# Altium integrated library Xilinx Virtex.IntLib: 240 symbols (part 16 of 35)
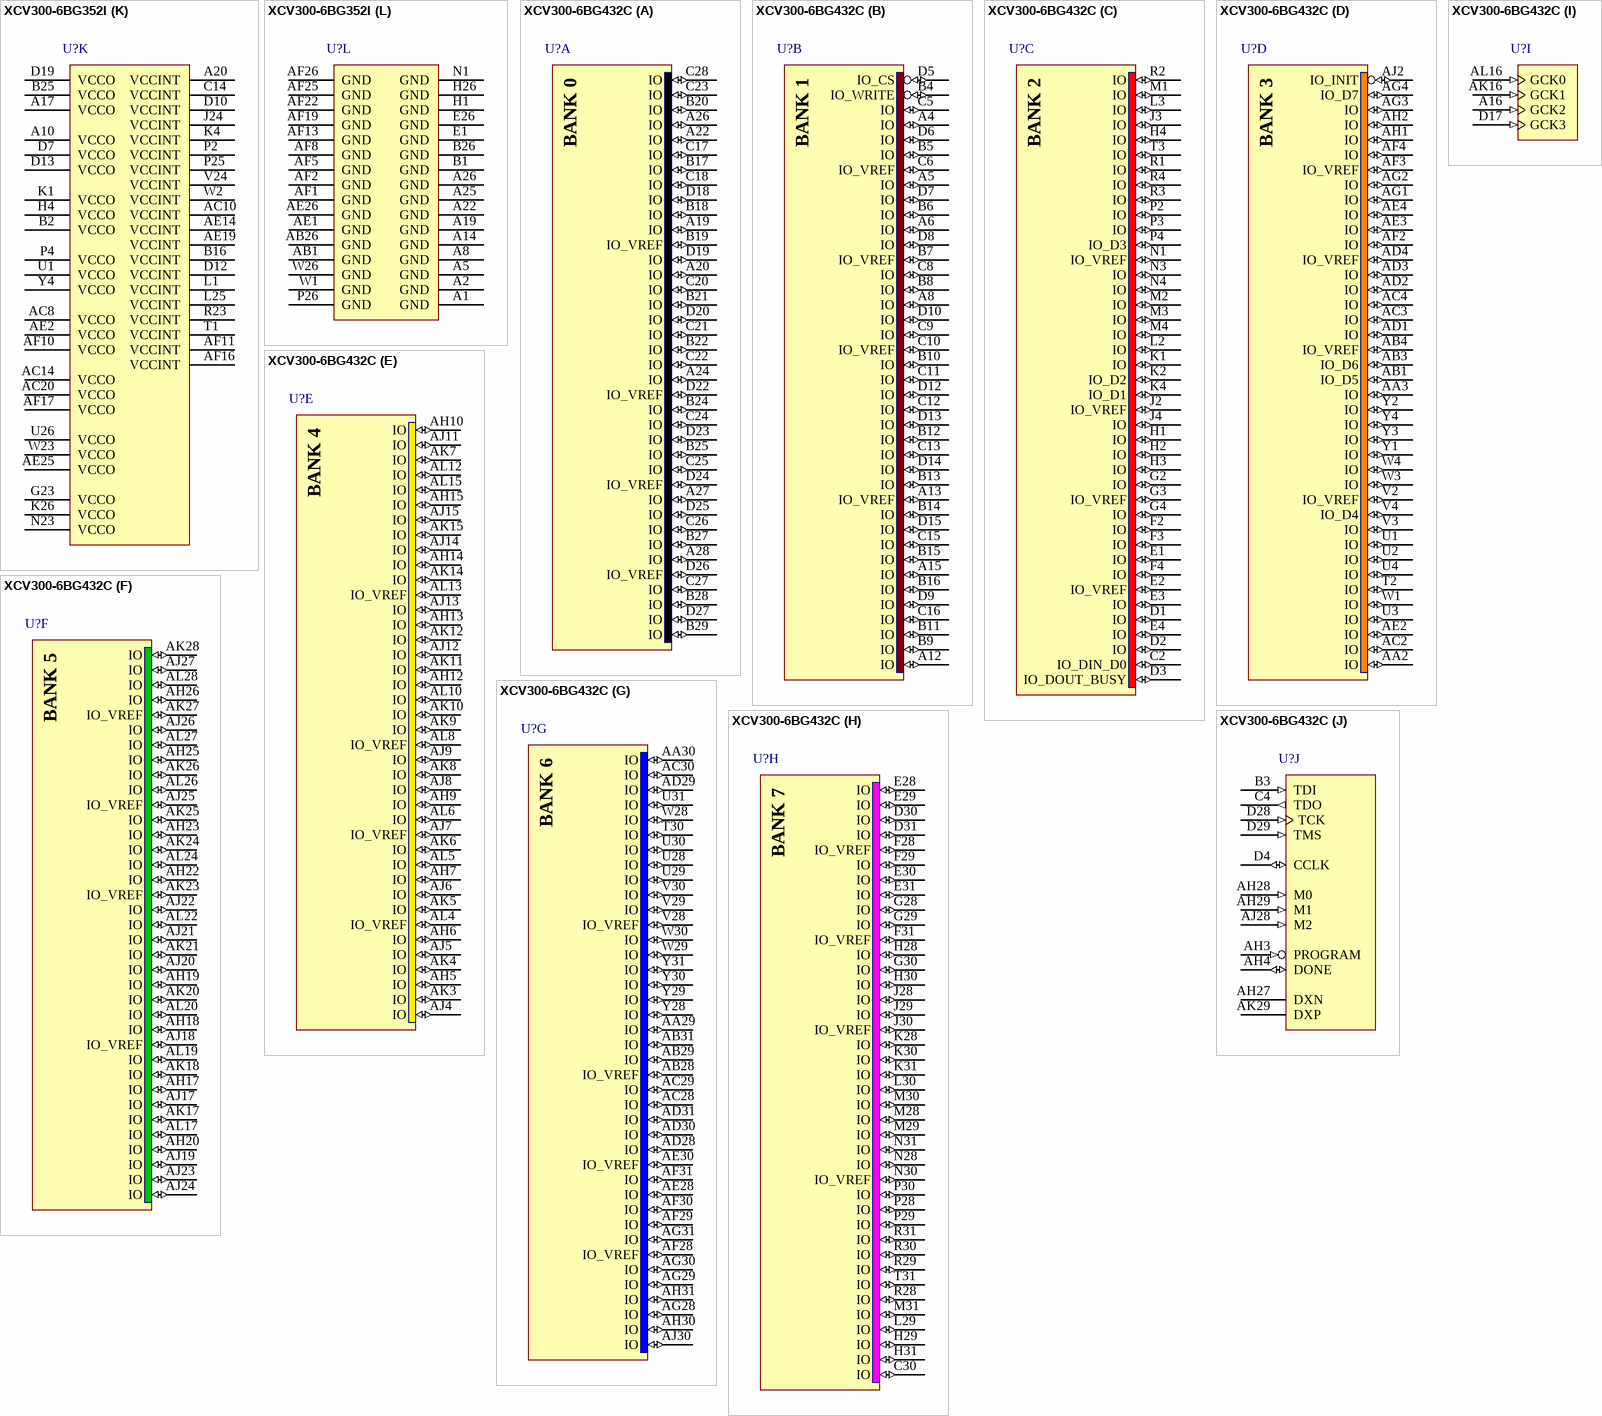
[diagram p227: symbols XCV300-6BG352I to XCV300-6BG432C]

## XCV300-6BG352I
designator U?
Virtex 2.5V FPGA, 352-Ball BGA, Industrial Grade; Note: Solder pads are defined by the copper, i.e. non-soldermask defined (NSMD); Published: 19-Sep-2001; LatestRevisionDate: 13-Apr-2006; LatestRevisionNote: IPC-7351 Footprint Added.; DatasheetVersion: Dec-2002; PackageVersion: ver1.1, Apr-2001; PackageReference: BG352; Publisher: Altium Limited; PackageDescription: 352-Ball Metal Ball Grid Array (BG352); Code_JEDEC: MO-192-BAR-2; ComponentLink1Description: Manufacturer Link; ComponentLink1URL: http://www.xilinx.com/xlnx/xil_prodcat_product.jsp?title=ss_vir; ComponentLink2Description: Datasheet; ComponentLink2URL: http://direct.xilinx.com/bvdocs/publications/ds003.pdf
footprint BG352 (BGA, 352-Leads, Body 35x35mm, Pitch 1.27mm)
3D model XCV300-BG352 (352-Ball Metal Ball Grid Array (BG352))
signal-integrity model XCV300_BG352 (Virtex)
part A pins: A15 IO (io), A16 IO_VREF (io), A18 IO (io), A21 IO (io), A23 IO (io), A24 IO (io), B15 IO (io), B17 IO (io), B18 IO (io), B19 IO (io), B20 IO (io), B21 IO (io), B22 IO (io), B23 IO (io), B24 IO (io), C15 IO (io), C16 IO (io), C17 IO (io), C18 IO (io), C19 IO_VREF (io), C20 IO (io), C21 IO_VREF (io), C22 IO (io), C23 IO (io), D15 IO (io), D16 IO (io), D17 IO (io), D18 IO (io), D20 IO (io), D21 IO_VREF (io), D22 IO (io)
part B pins: A3 IO (io), A4 IO (io), A6 IO (io), A7 IO (io), A9 IO (io), A11 IO (io), A12 IO (io), A13 IO (io), B4 IO (io), B5 IO (io), B6 IO_VREF (io), B7 IO (io), B8 IO (io), B9 IO (io), B10 IO (io), B11 IO (io), B12 IO (io), B13 IO (io), C4 IO_CS (io), C5 IO (io), C6 IO (io), C7 IO (io), C8 IO (io), C9 IO_VREF (io), C10 IO (io), C11 IO (io), C12 IO_VREF (io), C13 IO (io), D5 IO_WRITE (io), D6 IO_VREF (io), D8 IO (io), D9 IO (io), D11 IO (io)
part C pins: C1 IO (io), C2 IO (io), D1 IO (io), D2 IO_VREF (io), D3 IO_DIN_D0 (io), E2 IO_VREF (io), E3 IO (io), E4 IO_DOUT_BUSY (io), F1 IO (io), F2 IO (io), F3 IO (io), F4 IO (io), G1 IO_D1 (io), G2 IO (io), G3 IO (io), G4 IO (io), H2 IO_VREF (io), H3 IO (io), J1 IO (io), J2 IO (io), J3 IO_D2 (io), J4 IO (io), K2 IO (io), K3 IO (io), L2 IO (io), L3 IO (io), L4 IO (io), M1 IO (io), M2 IO (io), M3 IO_D3 (io), M4 IO_VREF (io), N2 IO (io), N3 IO (io), N4 IO (io)
part D pins: AA1 IO (io), AA2 IO (io), AA3 IO (io), AA4 IO (io), AB2 IO (io), AB3 IO (io), AB4 IO (io), AC1 IO (io), AC2 IO_VREF (io), AC3 IO_D7 (io), AD1 IO (io), AD2 IO_INIT (io), P1 IO (io), P3 IO (io), R1 IO (io), R2 IO (io), R3 IO_D4 (io), R4 IO_VREF (io), T2 IO (io), T3 IO (io), T4 IO (io), U2 IO (io), U3 IO (io), U4 IO_D5 (io), V1 IO (io), V2 IO (io), V3 IO_D6 (io), V4 IO_VREF (io), W3 IO (io), W4 IO (io), Y1 IO (io), Y2 IO (io), Y3 IO_VREF (io)
part E pins: AC5 IO (io), AC6 IO (io), AC7 IO (io), AC9 IO (io), AC11 IO (io), AC12 IO_VREF (io), AC13 IO (io), AD4 IO (io), AD5 IO (io), AD6 IO (io), AD7 IO (io), AD8 IO (io), AD9 IO (io), AD10 IO (io), AD11 IO (io), AD12 IO (io), AD13 IO (io), AE3 IO (io), AE4 IO_VREF (io), AE5 IO_VREF (io), AE6 IO (io), AE7 IO (io), AE8 IO_VREF (io), AE9 IO (io), AE10 IO (io), AE11 IO (io), AE12 IO (io), AF3 IO (io), AF4 IO (io), AF6 IO (io), AF7 IO (io), AF9 IO (io), AF12 IO (io)
part F pins: AC15 IO_VREF (io), AC16 IO (io), AC17 IO (io), AC18 IO_VREF (io), AC19 IO (io), AC21 IO (io), AC22 IO (io), AD14 IO (io), AD15 IO (io), AD16 IO (io), AD17 IO (io), AD18 IO (io), AD19 IO (io), AD20 IO_VREF (io), AD21 IO (io), AD22 IO (io), AE15 IO (io), AE16 IO (io), AE17 IO (io), AE18 IO (io), AE20 IO (io), AE21 IO (io), AE22 IO (io), AE23 IO_VREF (io), AF15 IO (io), AF18 IO (io), AF20 IO (io), AF21 IO (io), AF23 IO (io), AF24 IO (io)
part G pins: AA23 IO (io), AA24 IO (io), AA25 IO_VREF (io), AA26 IO (io), AB24 IO (io), AB25 IO (io), AC24 IO (io), AC25 IO (io), AC26 IO (io), AD25 IO (io), AD26 IO_VREF (io), N26 IO (io), P23 IO (io), P24 IO (io), R24 IO_VREF (io), R25 IO (io), R26 IO (io), T23 IO (io), T24 IO (io), T25 IO (io), T26 IO (io), U23 IO (io), U24 IO (io), U25 IO (io), V23 IO (io), V25 IO (io), V26 IO (io), W24 IO (io), W25 IO (io), Y23 IO (io), Y24 IO (io), Y25 IO (io), Y26 IO_VREF (io)
part H pins: C25 IO (io), C26 IO (io), D24 IO (io), D25 IO (io), D26 IO_VREF (io), E23 IO (io), E24 IO_VREF (io), E25 IO (io), F23 IO (io), F24 IO (io), F25 IO (io), F26 IO (io), G24 IO (io), G25 IO (io), G26 IO_VREF (io), H23 IO (io), H24 IO (io), H25 IO (io), J23 IO (io), J25 IO (io), J26 IO (io), K23 IO (io), K24 IO (io), K25 IO (io), L23 IO (io), L24 IO (io), L26 IO_VREF (io), M23 IO (io), M24 IO (io), M25 IO (io), M26 IO (io), N24 IO (io), N25 IO (io)
part I pins: AE13 GCK0 (in), AF14 GCK1 (in), B14 GCK2 (in), D14 GCK3 (in)
part J pins: AB23 M1 (in), AC4 PROGRAM (in), AC23 M2 (in), AD3 DONE (io), AD23 DXN, AD24 M0 (in), AE24 DXP, B3 TDI (in), C3 CCLK (io), C24 TCK (in), D4 TDO (out), D23 TMS (in)
part K pins: A10 VCCO (power), A17 VCCO (power), A20 VCCINT (power), AC8 VCCO (power), AC10 VCCINT (power), AC14 VCCO (power), AC20 VCCO (power), AE2 VCCO (power), AE14 VCCINT (power), AE19 VCCINT (power), AE25 VCCO (power), AF10 VCCO (power), AF11 VCCINT (power), AF16 VCCINT (power), AF17 VCCO (power), B2 VCCO (power), B16 VCCINT (power), B25 VCCO (power), C14 VCCINT (power), D7 VCCO (power), D10 VCCINT (power), D12 VCCINT (power), D13 VCCO (power), D19 VCCO (power), G23 VCCO (power), H4 VCCO (power), J24 VCCINT (power), K1 VCCO (power), K4 VCCINT (power), K26 VCCO (power), L1 VCCINT (power), L25 VCCINT (power), N23 VCCO (power), P2 VCCINT (power), P4 VCCO (power), P25 VCCINT (power), R23 VCCINT (power), T1 VCCINT (power), U1 VCCO (power), U26 VCCO (power), V24 VCCINT (power), W2 VCCINT (power), W23 VCCO (power), Y4 VCCO (power)
part L pins: A1 GND (power), A2 GND (power), A5 GND (power), A8 GND (power), A14 GND (power), A19 GND (power), A22 GND (power), A25 GND (power), A26 GND (power), AB1 GND (power), AB26 GND (power), AE1 GND (power), AE26 GND (power), AF1 GND (power), AF2 GND (power), AF5 GND (power), AF8 GND (power), AF13 GND (power), AF19 GND (power), AF22 GND (power), AF25 GND (power), AF26 GND (power), B1 GND (power), B26 GND (power), E1 GND (power), E26 GND (power), H1 GND (power), H26 GND (power), N1 GND (power), P26 GND (power), W1 GND (power), W26 GND (power)
part A text: BANK 0
part B text: BANK 1
part C text: BANK 2
part D text: BANK 3
part E text: BANK 4
part F text: BANK 5
part G text: BANK 6
part H text: BANK 7

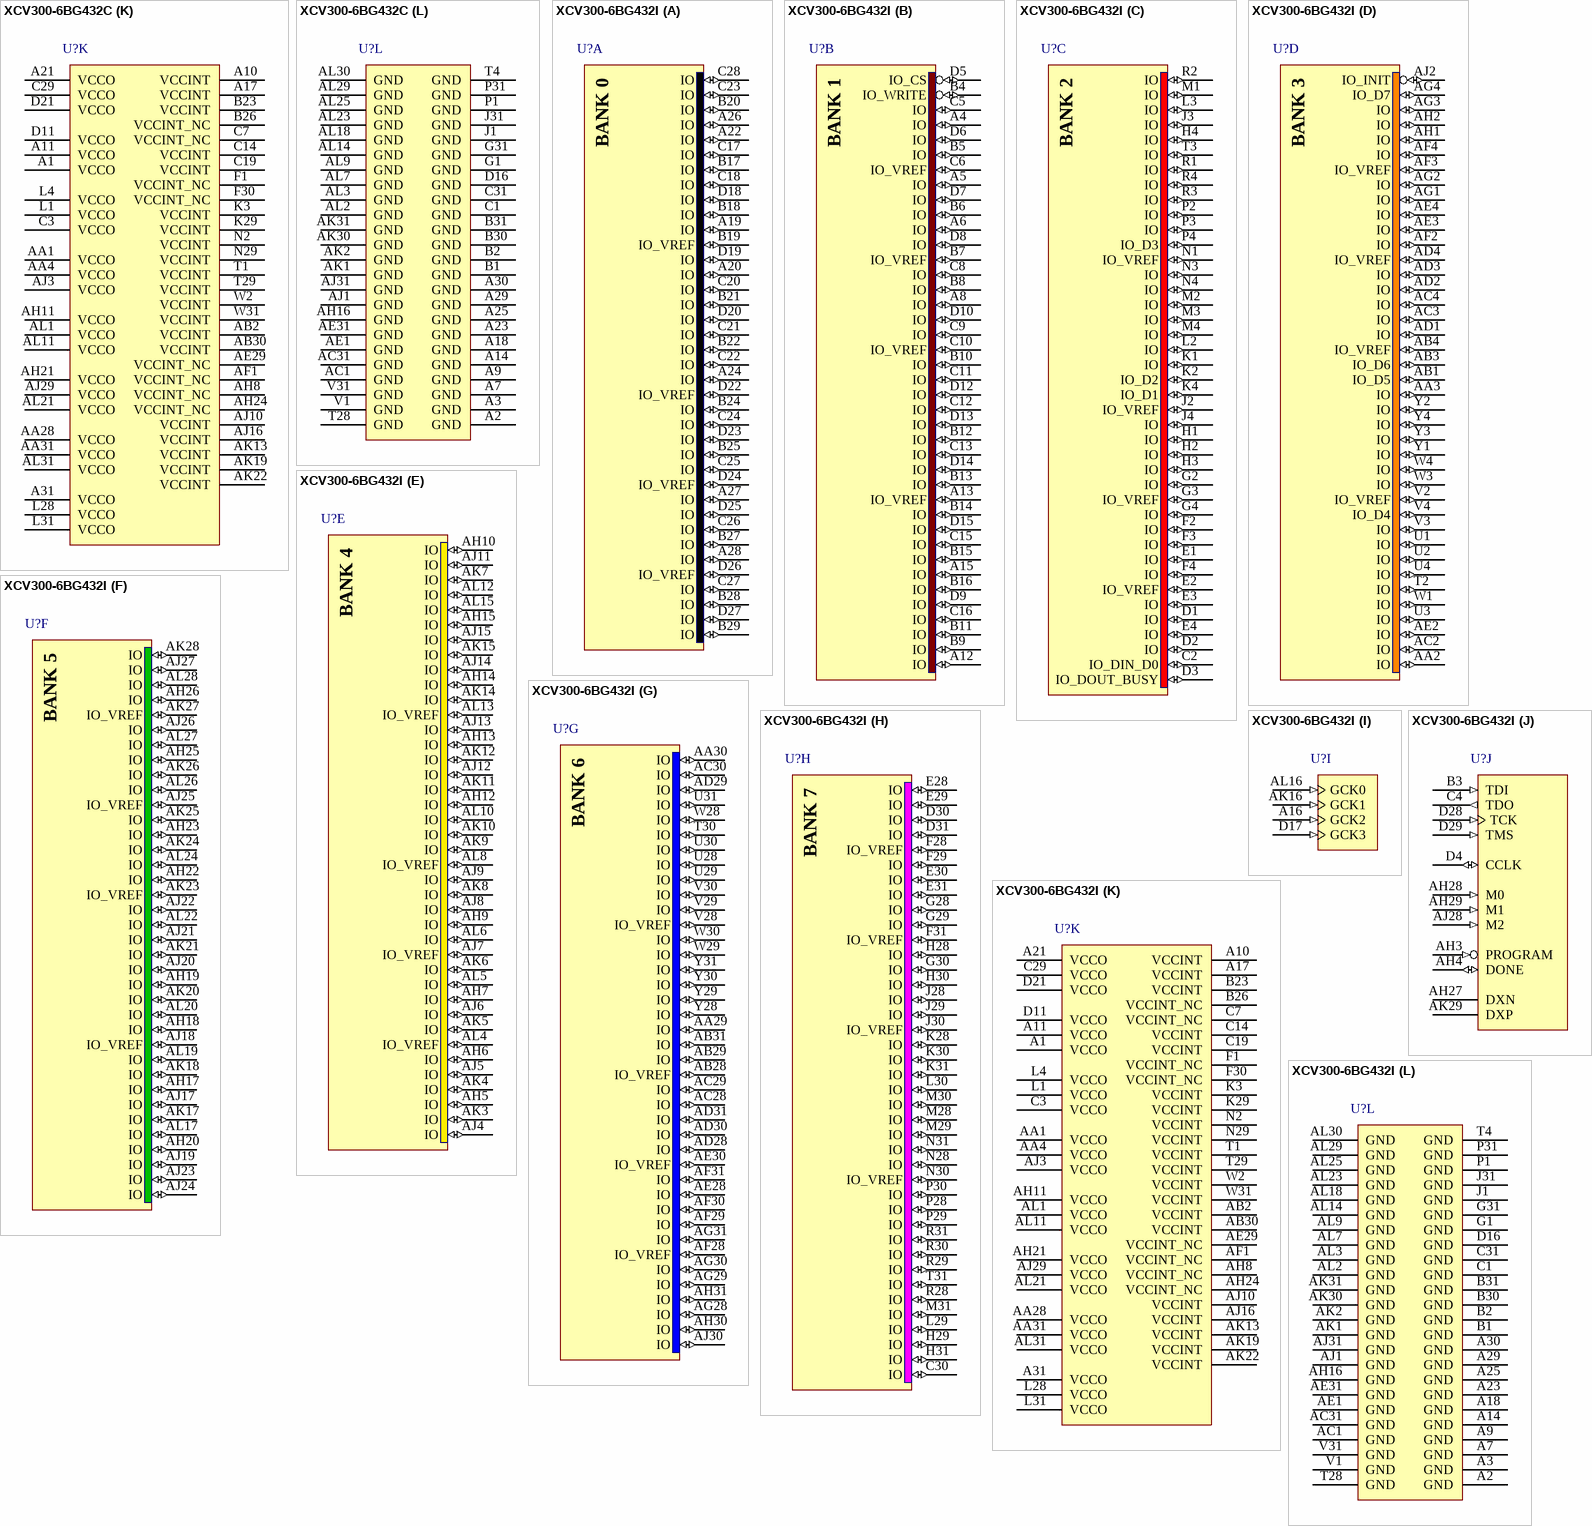
[diagram p89: symbols XCV300-6BG432C to XCV300-6BG432I]

## XCV300-6BG432C
designator U?
Virtex 2.5V FPGA, 432-Ball BGA, Commercial Grade; Note: Solder pads are defined by the copper, i.e. non-soldermask defined (NSMD); Published: 19-Sep-2001; LatestRevisionDate: 13-Apr-2006; LatestRevisionNote: IPC-7351 Footprint Added.; DatasheetVersion: Dec-2002; PackageVersion: ver1.1, Apr-2001; PackageReference: BG432; Publisher: Altium Limited; PackageDescription: 432-Ball Metal Ball Grid Array (BG432); Code_JEDEC: MO-192-BAU-1 (Depopulated); ComponentLink1Description: Manufacturer Link; ComponentLink1URL: http://www.xilinx.com/xlnx/xil_prodcat_product.jsp?title=ss_vir; ComponentLink2Description: Datasheet; ComponentLink2URL: http://direct.xilinx.com/bvdocs/publications/ds003.pdf
footprint BG432 (BGA, 432-Leads, Body 40x40mm, Pitch 1.27mm)
3D model XCV300-BG432 (432-Ball Metal Ball Grid Array (BG432))
signal-integrity model XCV300_BG432 (Virtex)
part A pins: A19 IO (io), A20 IO (io), A22 IO (io), A24 IO (io), A26 IO (io), A27 IO (io), A28 IO (io), B17 IO (io), B18 IO (io), B19 IO_VREF (io), B20 IO (io), B21 IO (io), B22 IO (io), B24 IO (io), B25 IO (io), B27 IO (io), B28 IO (io), B29 IO (io), C17 IO (io), C18 IO (io), C20 IO (io), C21 IO (io), C22 IO (io), C23 IO (io), C24 IO (io), C25 IO (io), C26 IO (io), C27 IO (io), C28 IO (io), D18 IO (io), D19 IO (io), D20 IO (io), D22 IO_VREF (io), D23 IO (io), D24 IO_VREF (io), D25 IO (io), D26 IO_VREF (io), D27 IO (io)
part B pins: A4 IO (io), A5 IO (io), A6 IO (io), A8 IO (io), A12 IO (io), A13 IO_VREF (io), A15 IO (io), B4 IO_WRITE (io), B5 IO (io), B6 IO (io), B7 IO_VREF (io), B8 IO (io), B9 IO (io), B10 IO (io), B11 IO (io), B12 IO (io), B13 IO (io), B14 IO (io), B15 IO (io), B16 IO (io), C5 IO (io), C6 IO_VREF (io), C8 IO (io), C9 IO (io), C10 IO_VREF (io), C11 IO (io), C12 IO (io), C13 IO (io), C15 IO (io), C16 IO (io), D5 IO_CS (io), D6 IO (io), D7 IO (io), D8 IO (io), D9 IO (io), D10 IO (io), D12 IO (io), D13 IO (io), D14 IO (io), D15 IO (io)
part C pins: C2 IO_DIN_D0 (io), D1 IO (io), D2 IO (io), D3 IO_DOUT_BUSY (io), E1 IO (io), E2 IO_VREF (io), E3 IO (io), E4 IO (io), F2 IO (io), F3 IO (io), F4 IO (io), G2 IO (io), G3 IO_VREF (io), G4 IO (io), H1 IO (io), H2 IO (io), H3 IO (io), H4 IO (io), J2 IO_VREF (io), J3 IO (io), J4 IO (io), K1 IO (io), K2 IO_D2 (io), K4 IO_D1 (io), L2 IO (io), L3 IO (io), M1 IO (io), M2 IO (io), M3 IO (io), M4 IO (io), N1 IO_VREF (io), N3 IO (io), N4 IO (io), P2 IO (io), P3 IO (io), P4 IO_D3 (io), R1 IO (io), R2 IO (io), R3 IO (io), R4 IO (io), T3 IO (io)
part D pins: AA2 IO (io), AA3 IO (io), AB1 IO_D5 (io), AB3 IO_D6 (io), AB4 IO_VREF (io), AC2 IO (io), AC3 IO (io), AC4 IO (io), AD1 IO (io), AD2 IO (io), AD3 IO (io), AD4 IO_VREF (io), AE2 IO (io), AE3 IO (io), AE4 IO (io), AF2 IO (io), AF3 IO_VREF (io), AF4 IO (io), AG1 IO (io), AG2 IO (io), AG3 IO (io), AG4 IO_D7 (io), AH1 IO (io), AH2 IO (io), AJ2 IO_INIT (io), T2 IO (io), U1 IO (io), U2 IO (io), U3 IO (io), U4 IO (io), V2 IO_VREF (io), V3 IO (io), V4 IO_D4 (io), W1 IO (io), W3 IO (io), W4 IO (io), Y1 IO (io), Y2 IO (io), Y3 IO (io), Y4 IO (io)
part E pins: AH5 IO (io), AH6 IO (io), AH7 IO (io), AH9 IO (io), AH10 IO (io), AH12 IO (io), AH13 IO (io), AH14 IO (io), AH15 IO (io), AJ4 IO (io), AJ5 IO (io), AJ6 IO (io), AJ7 IO_VREF (io), AJ8 IO (io), AJ9 IO (io), AJ11 IO (io), AJ12 IO (io), AJ13 IO (io), AJ14 IO (io), AJ15 IO (io), AK3 IO (io), AK4 IO (io), AK5 IO (io), AK6 IO (io), AK7 IO (io), AK8 IO (io), AK9 IO (io), AK10 IO (io), AK11 IO (io), AK12 IO (io), AK14 IO (io), AK15 IO (io), AL4 IO_VREF (io), AL5 IO (io), AL6 IO (io), AL8 IO_VREF (io), AL10 IO (io), AL12 IO (io), AL13 IO_VREF (io), AL15 IO (io)
part F pins: AH17 IO (io), AH18 IO (io), AH19 IO (io), AH20 IO (io), AH22 IO (io), AH23 IO (io), AH25 IO (io), AH26 IO (io), AJ17 IO (io), AJ18 IO_VREF (io), AJ19 IO (io), AJ20 IO (io), AJ21 IO (io), AJ22 IO (io), AJ23 IO (io), AJ24 IO (io), AJ25 IO_VREF (io), AJ26 IO (io), AJ27 IO (io), AK17 IO (io), AK18 IO (io), AK20 IO (io), AK21 IO (io), AK23 IO_VREF (io), AK24 IO (io), AK25 IO (io), AK26 IO (io), AK27 IO_VREF (io), AK28 IO (io), AL17 IO (io), AL19 IO (io), AL20 IO (io), AL22 IO (io), AL24 IO (io), AL26 IO (io), AL27 IO (io), AL28 IO (io)
part G pins: AA29 IO (io), AA30 IO (io), AB28 IO_VREF (io), AB29 IO (io), AB31 IO (io), AC28 IO (io), AC29 IO (io), AC30 IO (io), AD28 IO (io), AD29 IO (io), AD30 IO (io), AD31 IO (io), AE28 IO (io), AE30 IO_VREF (io), AF28 IO_VREF (io), AF29 IO (io), AF30 IO (io), AF31 IO (io), AG28 IO (io), AG29 IO (io), AG30 IO (io), AG31 IO (io), AH30 IO (io), AH31 IO (io), AJ30 IO (io), T30 IO (io), U28 IO (io), U29 IO (io), U30 IO (io), U31 IO (io), V28 IO_VREF (io), V29 IO (io), V30 IO (io), W28 IO (io), W29 IO (io), W30 IO (io), Y28 IO (io), Y29 IO (io), Y30 IO (io), Y31 IO (io)
part H pins: C30 IO (io), D30 IO (io), D31 IO (io), E28 IO (io), E29 IO (io), E30 IO (io), E31 IO (io), F28 IO_VREF (io), F29 IO (io), F31 IO_VREF (io), G28 IO (io), G29 IO (io), G30 IO (io), H28 IO (io), H29 IO (io), H30 IO (io), H31 IO (io), J28 IO (io), J29 IO (io), J30 IO_VREF (io), K28 IO (io), K30 IO (io), K31 IO (io), L29 IO (io), L30 IO (io), M28 IO (io), M29 IO (io), M30 IO (io), M31 IO (io), N28 IO (io), N30 IO_VREF (io), N31 IO (io), P28 IO (io), P29 IO (io), P30 IO (io), R28 IO (io), R29 IO (io), R30 IO (io), R31 IO (io), T31 IO (io)
part I pins: A16 GCK2 (in), AK16 GCK1 (in), AL16 GCK0 (in), D17 GCK3 (in)
part J pins: AH3 PROGRAM (in), AH4 DONE (io), AH27 DXN, AH28 M0 (in), AH29 M1 (in), AJ28 M2 (in), AK29 DXP, B3 TDI (in), C4 TDO (out), D4 CCLK (io), D28 TCK (in), D29 TMS (in)
part K pins: A1 VCCO (power), A10 VCCINT (power), A11 VCCO (power), A17 VCCINT (power), A21 VCCO (power), A31 VCCO (power), AA1 VCCO (power), AA4 VCCO (power), AA28 VCCO (power), AA31 VCCO (power), AB2 VCCINT (power), AB30 VCCINT (power), AE29 VCCINT_NC (power), AF1 VCCINT_NC (power), AH8 VCCINT_NC (power), AH11 VCCO (power), AH21 VCCO (power), AH24 VCCINT_NC (power), AJ3 VCCO (power), AJ10 VCCINT (power), AJ16 VCCINT (power), AJ29 VCCO (power), AK13 VCCINT (power), AK19 VCCINT (power), AK22 VCCINT (power), AL1 VCCO (power), AL11 VCCO (power), AL21 VCCO (power), AL31 VCCO (power), B23 VCCINT (power), B26 VCCINT_NC (power), C3 VCCO (power), C7 VCCINT_NC (power), C14 VCCINT (power), C19 VCCINT (power), C29 VCCO (power), D11 VCCO (power), D21 VCCO (power), F1 VCCINT_NC (power), F30 VCCINT_NC (power), K3 VCCINT (power), K29 VCCINT (power), L1 VCCO (power), L4 VCCO (power), L28 VCCO (power), L31 VCCO (power), N2 VCCINT (power), N29 VCCINT (power), T1 VCCINT (power), T29 VCCINT (power), W2 VCCINT (power), W31 VCCINT (power)
part L pins: A2 GND (power), A3 GND (power), A7 GND (power), A9 GND (power), A14 GND (power), A18 GND (power), A23 GND (power), A25 GND (power), A29 GND (power), A30 GND (power), AC1 GND (power), AC31 GND (power), AE1 GND (power), AE31 GND (power), AH16 GND (power), AJ1 GND (power), AJ31 GND (power), AK1 GND (power), AK2 GND (power), AK30 GND (power), AK31 GND (power), AL2 GND (power), AL3 GND (power), AL7 GND (power), AL9 GND (power), AL14 GND (power), AL18 GND (power), AL23 GND (power), AL25 GND (power), AL29 GND (power), AL30 GND (power), B1 GND (power), B2 GND (power), B30 GND (power), B31 GND (power), C1 GND (power), C31 GND (power), D16 GND (power), G1 GND (power), G31 GND (power), J1 GND (power), J31 GND (power), P1 GND (power), P31 GND (power), T4 GND (power), T28 GND (power), V1 GND (power), V31 GND (power)
part A text: BANK 0
part B text: BANK 1
part C text: BANK 2
part D text: BANK 3
part E text: BANK 4
part F text: BANK 5
part G text: BANK 6
part H text: BANK 7

## XCV300-6BG432I
designator U?
Virtex 2.5V FPGA, 432-Ball BGA, Industrial Grade; Note: Solder pads are defined by the copper, i.e. non-soldermask defined (NSMD); Published: 19-Sep-2001; LatestRevisionDate: 13-Apr-2006; LatestRevisionNote: IPC-7351 Footprint Added.; DatasheetVersion: Dec-2002; PackageVersion: ver1.1, Apr-2001; PackageReference: BG432; Publisher: Altium Limited; PackageDescription: 432-Ball Metal Ball Grid Array (BG432); Code_JEDEC: MO-192-BAU-1 (Depopulated); ComponentLink1Description: Manufacturer Link; ComponentLink1URL: http://www.xilinx.com/xlnx/xil_prodcat_product.jsp?title=ss_vir; ComponentLink2Description: Datasheet; ComponentLink2URL: http://direct.xilinx.com/bvdocs/publications/ds003.pdf
footprint BG432 (BGA, 432-Leads, Body 40x40mm, Pitch 1.27mm)
3D model XCV300-BG432 (432-Ball Metal Ball Grid Array (BG432))
signal-integrity model XCV300_BG432 (Virtex)
part A pins: A19 IO (io), A20 IO (io), A22 IO (io), A24 IO (io), A26 IO (io), A27 IO (io), A28 IO (io), B17 IO (io), B18 IO (io), B19 IO_VREF (io), B20 IO (io), B21 IO (io), B22 IO (io), B24 IO (io), B25 IO (io), B27 IO (io), B28 IO (io), B29 IO (io), C17 IO (io), C18 IO (io), C20 IO (io), C21 IO (io), C22 IO (io), C23 IO (io), C24 IO (io), C25 IO (io), C26 IO (io), C27 IO (io), C28 IO (io), D18 IO (io), D19 IO (io), D20 IO (io), D22 IO_VREF (io), D23 IO (io), D24 IO_VREF (io), D25 IO (io), D26 IO_VREF (io), D27 IO (io)
part B pins: A4 IO (io), A5 IO (io), A6 IO (io), A8 IO (io), A12 IO (io), A13 IO_VREF (io), A15 IO (io), B4 IO_WRITE (io), B5 IO (io), B6 IO (io), B7 IO_VREF (io), B8 IO (io), B9 IO (io), B10 IO (io), B11 IO (io), B12 IO (io), B13 IO (io), B14 IO (io), B15 IO (io), B16 IO (io), C5 IO (io), C6 IO_VREF (io), C8 IO (io), C9 IO (io), C10 IO_VREF (io), C11 IO (io), C12 IO (io), C13 IO (io), C15 IO (io), C16 IO (io), D5 IO_CS (io), D6 IO (io), D7 IO (io), D8 IO (io), D9 IO (io), D10 IO (io), D12 IO (io), D13 IO (io), D14 IO (io), D15 IO (io)
part C pins: C2 IO_DIN_D0 (io), D1 IO (io), D2 IO (io), D3 IO_DOUT_BUSY (io), E1 IO (io), E2 IO_VREF (io), E3 IO (io), E4 IO (io), F2 IO (io), F3 IO (io), F4 IO (io), G2 IO (io), G3 IO_VREF (io), G4 IO (io), H1 IO (io), H2 IO (io), H3 IO (io), H4 IO (io), J2 IO_VREF (io), J3 IO (io), J4 IO (io), K1 IO (io), K2 IO_D2 (io), K4 IO_D1 (io), L2 IO (io), L3 IO (io), M1 IO (io), M2 IO (io), M3 IO (io), M4 IO (io), N1 IO_VREF (io), N3 IO (io), N4 IO (io), P2 IO (io), P3 IO (io), P4 IO_D3 (io), R1 IO (io), R2 IO (io), R3 IO (io), R4 IO (io), T3 IO (io)
part D pins: AA2 IO (io), AA3 IO (io), AB1 IO_D5 (io), AB3 IO_D6 (io), AB4 IO_VREF (io), AC2 IO (io), AC3 IO (io), AC4 IO (io), AD1 IO (io), AD2 IO (io), AD3 IO (io), AD4 IO_VREF (io), AE2 IO (io), AE3 IO (io), AE4 IO (io), AF2 IO (io), AF3 IO_VREF (io), AF4 IO (io), AG1 IO (io), AG2 IO (io), AG3 IO (io), AG4 IO_D7 (io), AH1 IO (io), AH2 IO (io), AJ2 IO_INIT (io), T2 IO (io), U1 IO (io), U2 IO (io), U3 IO (io), U4 IO (io), V2 IO_VREF (io), V3 IO (io), V4 IO_D4 (io), W1 IO (io), W3 IO (io), W4 IO (io), Y1 IO (io), Y2 IO (io), Y3 IO (io), Y4 IO (io)
part E pins: AH5 IO (io), AH6 IO (io), AH7 IO (io), AH9 IO (io), AH10 IO (io), AH12 IO (io), AH13 IO (io), AH14 IO (io), AH15 IO (io), AJ4 IO (io), AJ5 IO (io), AJ6 IO (io), AJ7 IO_VREF (io), AJ8 IO (io), AJ9 IO (io), AJ11 IO (io), AJ12 IO (io), AJ13 IO (io), AJ14 IO (io), AJ15 IO (io), AK3 IO (io), AK4 IO (io), AK5 IO (io), AK6 IO (io), AK7 IO (io), AK8 IO (io), AK9 IO (io), AK10 IO (io), AK11 IO (io), AK12 IO (io), AK14 IO (io), AK15 IO (io), AL4 IO_VREF (io), AL5 IO (io), AL6 IO (io), AL8 IO_VREF (io), AL10 IO (io), AL12 IO (io), AL13 IO_VREF (io), AL15 IO (io)
part F pins: AH17 IO (io), AH18 IO (io), AH19 IO (io), AH20 IO (io), AH22 IO (io), AH23 IO (io), AH25 IO (io), AH26 IO (io), AJ17 IO (io), AJ18 IO_VREF (io), AJ19 IO (io), AJ20 IO (io), AJ21 IO (io), AJ22 IO (io), AJ23 IO (io), AJ24 IO (io), AJ25 IO_VREF (io), AJ26 IO (io), AJ27 IO (io), AK17 IO (io), AK18 IO (io), AK20 IO (io), AK21 IO (io), AK23 IO_VREF (io), AK24 IO (io), AK25 IO (io), AK26 IO (io), AK27 IO_VREF (io), AK28 IO (io), AL17 IO (io), AL19 IO (io), AL20 IO (io), AL22 IO (io), AL24 IO (io), AL26 IO (io), AL27 IO (io), AL28 IO (io)
part G pins: AA29 IO (io), AA30 IO (io), AB28 IO_VREF (io), AB29 IO (io), AB31 IO (io), AC28 IO (io), AC29 IO (io), AC30 IO (io), AD28 IO (io), AD29 IO (io), AD30 IO (io), AD31 IO (io), AE28 IO (io), AE30 IO_VREF (io), AF28 IO_VREF (io), AF29 IO (io), AF30 IO (io), AF31 IO (io), AG28 IO (io), AG29 IO (io), AG30 IO (io), AG31 IO (io), AH30 IO (io), AH31 IO (io), AJ30 IO (io), T30 IO (io), U28 IO (io), U29 IO (io), U30 IO (io), U31 IO (io), V28 IO_VREF (io), V29 IO (io), V30 IO (io), W28 IO (io), W29 IO (io), W30 IO (io), Y28 IO (io), Y29 IO (io), Y30 IO (io), Y31 IO (io)
part H pins: C30 IO (io), D30 IO (io), D31 IO (io), E28 IO (io), E29 IO (io), E30 IO (io), E31 IO (io), F28 IO_VREF (io), F29 IO (io), F31 IO_VREF (io), G28 IO (io), G29 IO (io), G30 IO (io), H28 IO (io), H29 IO (io), H30 IO (io), H31 IO (io), J28 IO (io), J29 IO (io), J30 IO_VREF (io), K28 IO (io), K30 IO (io), K31 IO (io), L29 IO (io), L30 IO (io), M28 IO (io), M29 IO (io), M30 IO (io), M31 IO (io), N28 IO (io), N30 IO_VREF (io), N31 IO (io), P28 IO (io), P29 IO (io), P30 IO (io), R28 IO (io), R29 IO (io), R30 IO (io), R31 IO (io), T31 IO (io)
part I pins: A16 GCK2 (in), AK16 GCK1 (in), AL16 GCK0 (in), D17 GCK3 (in)
part J pins: AH3 PROGRAM (in), AH4 DONE (io), AH27 DXN, AH28 M0 (in), AH29 M1 (in), AJ28 M2 (in), AK29 DXP, B3 TDI (in), C4 TDO (out), D4 CCLK (io), D28 TCK (in), D29 TMS (in)
part K pins: A1 VCCO (power), A10 VCCINT (power), A11 VCCO (power), A17 VCCINT (power), A21 VCCO (power), A31 VCCO (power), AA1 VCCO (power), AA4 VCCO (power), AA28 VCCO (power), AA31 VCCO (power), AB2 VCCINT (power), AB30 VCCINT (power), AE29 VCCINT_NC (power), AF1 VCCINT_NC (power), AH8 VCCINT_NC (power), AH11 VCCO (power), AH21 VCCO (power), AH24 VCCINT_NC (power), AJ3 VCCO (power), AJ10 VCCINT (power), AJ16 VCCINT (power), AJ29 VCCO (power), AK13 VCCINT (power), AK19 VCCINT (power), AK22 VCCINT (power), AL1 VCCO (power), AL11 VCCO (power), AL21 VCCO (power), AL31 VCCO (power), B23 VCCINT (power), B26 VCCINT_NC (power), C3 VCCO (power), C7 VCCINT_NC (power), C14 VCCINT (power), C19 VCCINT (power), C29 VCCO (power), D11 VCCO (power), D21 VCCO (power), F1 VCCINT_NC (power), F30 VCCINT_NC (power), K3 VCCINT (power), K29 VCCINT (power), L1 VCCO (power), L4 VCCO (power), L28 VCCO (power), L31 VCCO (power), N2 VCCINT (power), N29 VCCINT (power), T1 VCCINT (power), T29 VCCINT (power), W2 VCCINT (power), W31 VCCINT (power)
part L pins: A2 GND (power), A3 GND (power), A7 GND (power), A9 GND (power), A14 GND (power), A18 GND (power), A23 GND (power), A25 GND (power), A29 GND (power), A30 GND (power), AC1 GND (power), AC31 GND (power), AE1 GND (power), AE31 GND (power), AH16 GND (power), AJ1 GND (power), AJ31 GND (power), AK1 GND (power), AK2 GND (power), AK30 GND (power), AK31 GND (power), AL2 GND (power), AL3 GND (power), AL7 GND (power), AL9 GND (power), AL14 GND (power), AL18 GND (power), AL23 GND (power), AL25 GND (power), AL29 GND (power), AL30 GND (power), B1 GND (power), B2 GND (power), B30 GND (power), B31 GND (power), C1 GND (power), C31 GND (power), D16 GND (power), G1 GND (power), G31 GND (power), J1 GND (power), J31 GND (power), P1 GND (power), P31 GND (power), T4 GND (power), T28 GND (power), V1 GND (power), V31 GND (power)
part A text: BANK 0
part B text: BANK 1
part C text: BANK 2
part D text: BANK 3
part E text: BANK 4
part F text: BANK 5
part G text: BANK 6
part H text: BANK 7

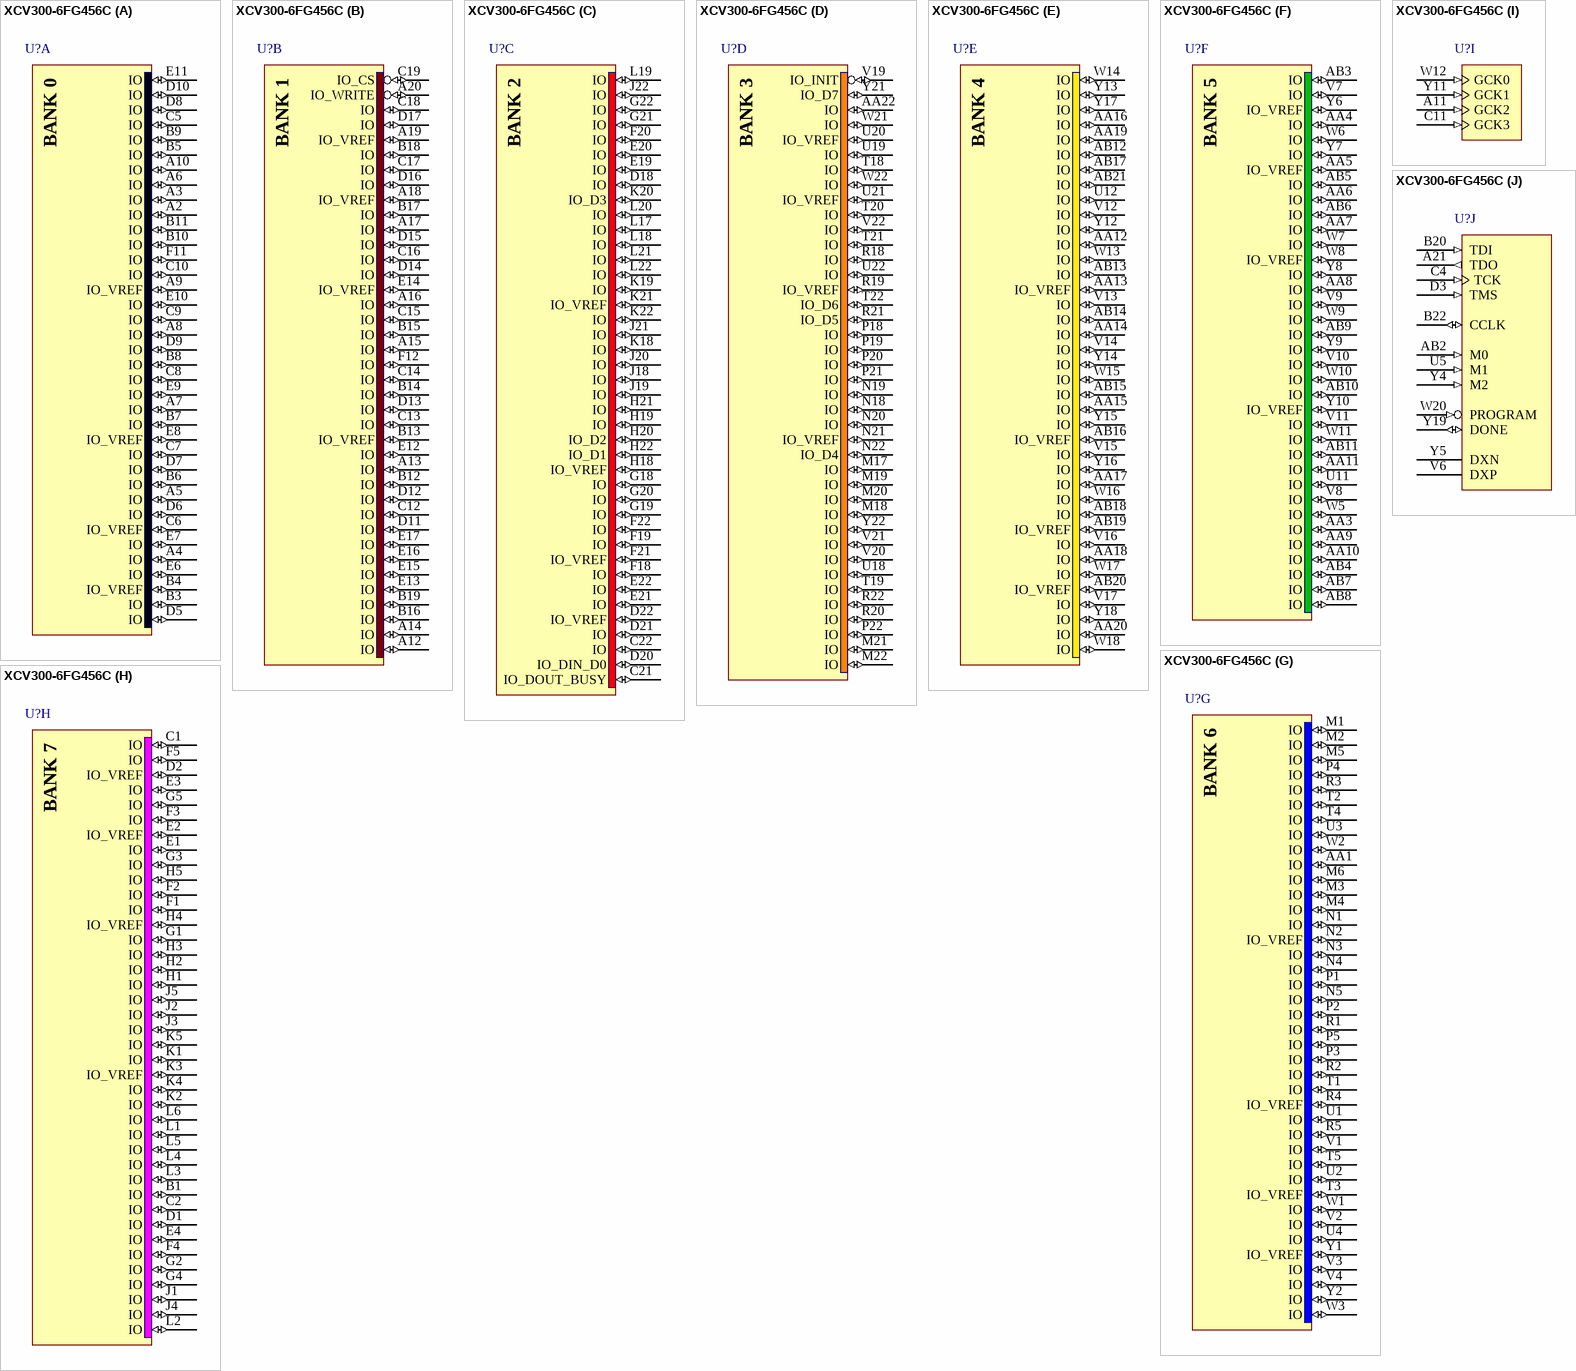
[diagram p90: symbol XCV300-6FG456C]

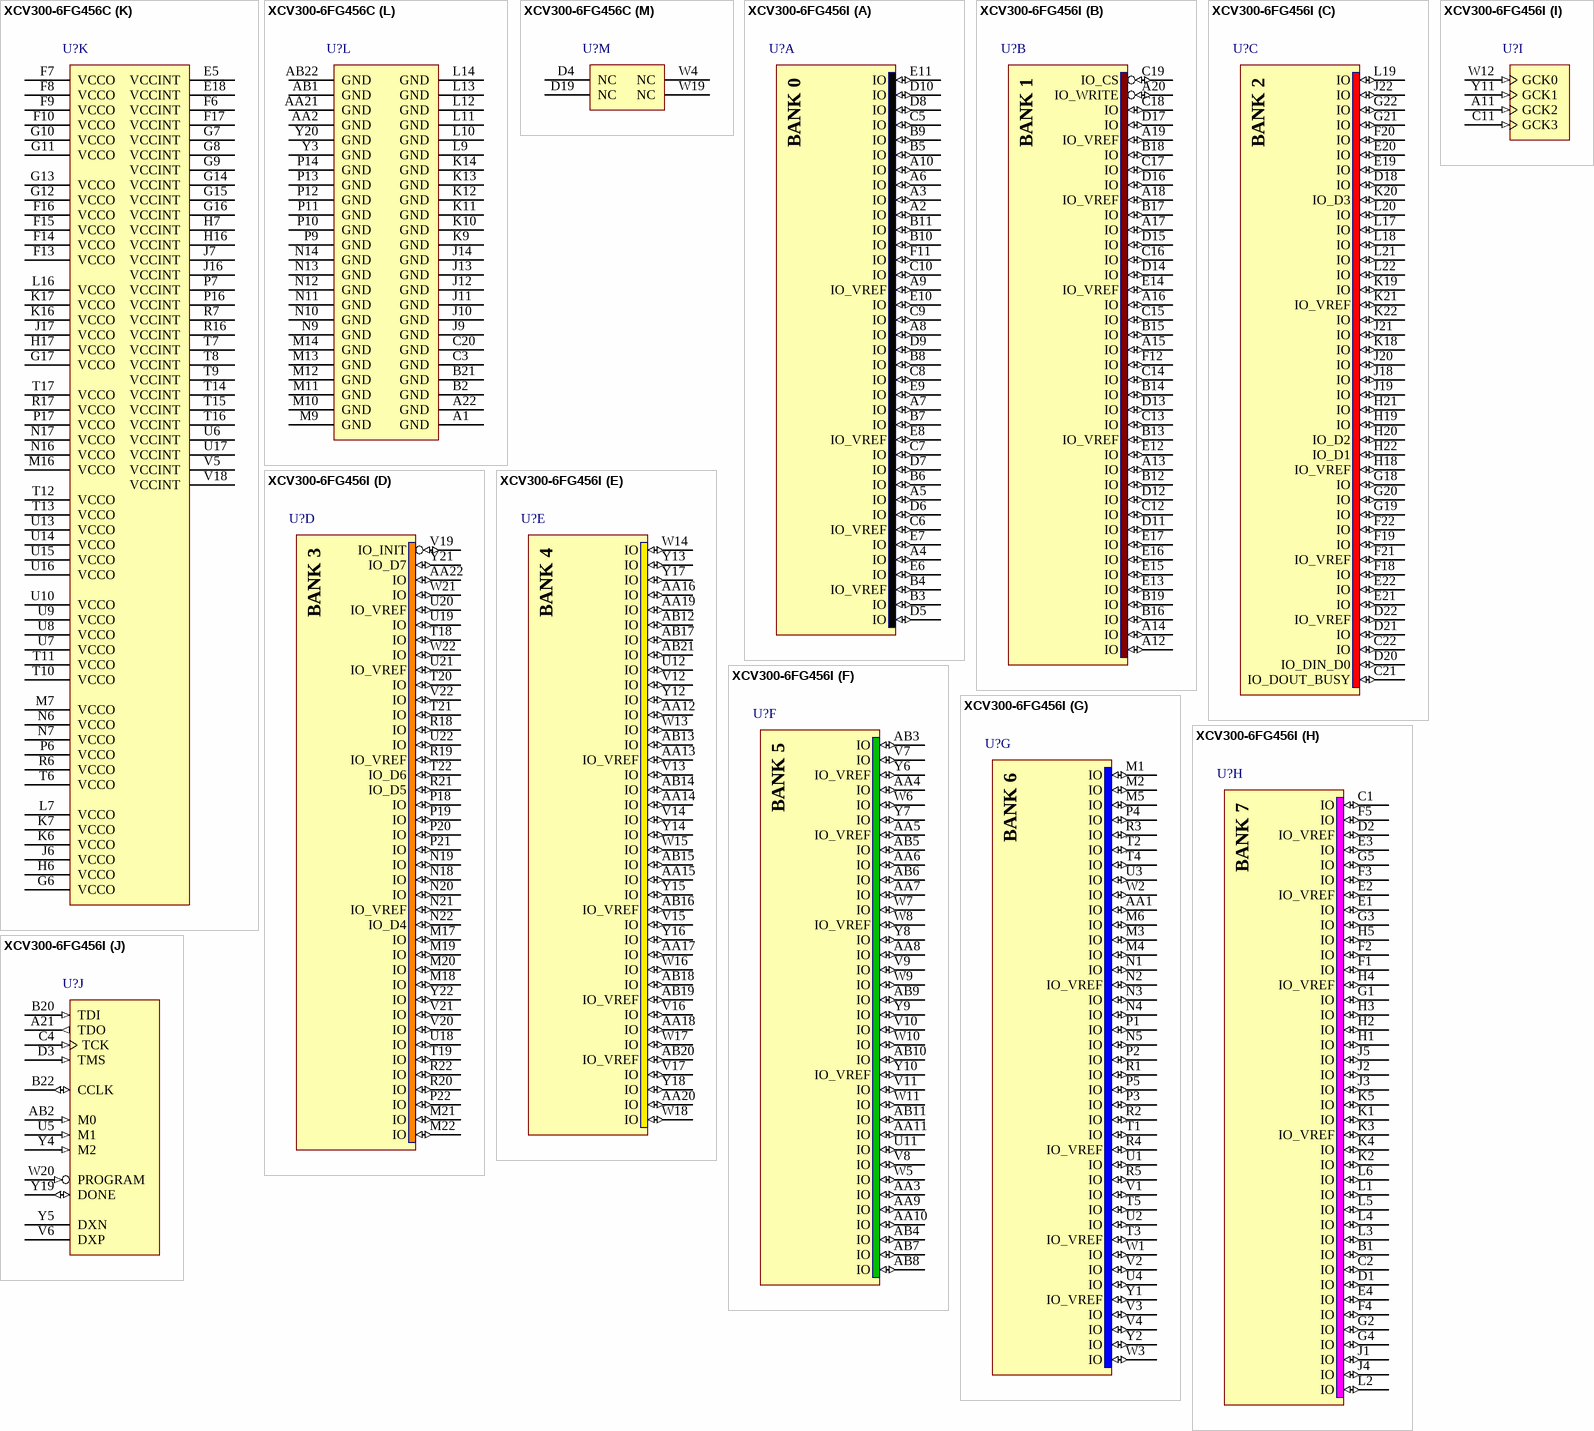
[diagram p91: symbols XCV300-6FG456C to XCV300-6FG456I]

## XCV300-6FG456C
designator U?
Virtex 2.5V FPGA, 456-Ball FBGA, Commercial Grade; Note: Solder pads are defined by the copper, i.e. non-soldermask defined (NSMD); Published: 19-Sep-2001; LatestRevisionDate: 13-Apr-2006; LatestRevisionNote: IPC-7351 Footprint Added.; DatasheetVersion: Dec-2002; PackageVersion: ver1.2.1, Mar-2005; PackageReference: FG456; Publisher: Altium Limited; PackageDescription: 456-Ball Fine Pitch Ball Grid Array (FG456); Code_JEDEC: MO-151-AAJ-1 (Depopulated); ComponentLink1Description: Manufacturer Link; ComponentLink1URL: http://www.xilinx.com/xlnx/xil_prodcat_product.jsp?title=ss_vir; ComponentLink2Description: Datasheet; ComponentLink2URL: http://direct.xilinx.com/bvdocs/publications/ds003.pdf
footprint FG456 (BGA, 456-Leads, Body 23x23mm, Pitch 1mm)
3D model XCV300-FG456 (456-Ball Fine Pitch Ball Grid Array (FG456))
signal-integrity model XCV300_FG456 (Virtex)
part A pins: A2 IO (io), A3 IO (io), A4 IO (io), A5 IO (io), A6 IO (io), A7 IO (io), A8 IO (io), A9 IO_VREF (io), A10 IO (io), B3 IO (io), B4 IO_VREF (io), B5 IO (io), B6 IO (io), B7 IO (io), B8 IO (io), B9 IO (io), B10 IO (io), B11 IO (io), C5 IO (io), C6 IO_VREF (io), C7 IO (io), C8 IO (io), C9 IO (io), C10 IO (io), D5 IO (io), D6 IO (io), D7 IO (io), D8 IO (io), D9 IO (io), D10 IO (io), E6 IO (io), E7 IO (io), E8 IO_VREF (io), E9 IO (io), E10 IO (io), E11 IO (io), F11 IO (io)
part B pins: A12 IO (io), A13 IO (io), A14 IO (io), A15 IO (io), A16 IO (io), A17 IO (io), A18 IO_VREF (io), A19 IO_VREF (io), A20 IO_WRITE (io), B12 IO (io), B13 IO_VREF (io), B14 IO (io), B15 IO (io), B16 IO (io), B17 IO (io), B18 IO (io), B19 IO (io), C12 IO (io), C13 IO (io), C14 IO (io), C15 IO (io), C16 IO (io), C17 IO (io), C18 IO (io), C19 IO_CS (io), D11 IO (io), D12 IO (io), D13 IO (io), D14 IO (io), D15 IO (io), D16 IO (io), D17 IO (io), E12 IO (io), E13 IO (io), E14 IO_VREF (io), E15 IO (io), E16 IO (io), E17 IO (io), F12 IO (io)
part C pins: C21 IO_DOUT_BUSY (io), C22 IO (io), D18 IO (io), D20 IO_DIN_D0 (io), D21 IO (io), D22 IO_VREF (io), E19 IO (io), E20 IO (io), E21 IO (io), E22 IO (io), F18 IO (io), F19 IO (io), F20 IO (io), F21 IO_VREF (io), F22 IO (io), G18 IO (io), G19 IO (io), G20 IO (io), G21 IO (io), G22 IO (io), H18 IO_VREF (io), H19 IO (io), H20 IO_D2 (io), H21 IO (io), H22 IO_D1 (io), J18 IO (io), J19 IO (io), J20 IO (io), J21 IO (io), J22 IO (io), K18 IO (io), K19 IO (io), K20 IO_D3 (io), K21 IO_VREF (io), K22 IO (io), L17 IO (io), L18 IO (io), L19 IO (io), L20 IO (io), L21 IO (io), L22 IO (io)
part D pins: AA22 IO (io), M17 IO (io), M18 IO (io), M19 IO (io), M20 IO (io), M21 IO (io), M22 IO (io), N18 IO (io), N19 IO (io), N20 IO (io), N21 IO_VREF (io), N22 IO_D4 (io), P18 IO (io), P19 IO (io), P20 IO (io), P21 IO (io), P22 IO (io), R18 IO (io), R19 IO_VREF (io), R20 IO (io), R21 IO_D5 (io), R22 IO (io), T18 IO (io), T19 IO (io), T20 IO (io), T21 IO (io), T22 IO_D6 (io), U18 IO (io), U19 IO (io), U20 IO_VREF (io), U21 IO_VREF (io), U22 IO (io), V19 IO_INIT (io), V20 IO (io), V21 IO (io), V22 IO (io), W21 IO (io), W22 IO (io), Y21 IO_D7 (io), Y22 IO (io)
part E pins: AA12 IO (io), AA13 IO_VREF (io), AA14 IO (io), AA15 IO (io), AA16 IO (io), AA17 IO (io), AA18 IO (io), AA19 IO (io), AA20 IO (io), AB12 IO (io), AB13 IO (io), AB14 IO (io), AB15 IO (io), AB16 IO_VREF (io), AB17 IO (io), AB18 IO (io), AB19 IO_VREF (io), AB20 IO_VREF (io), AB21 IO (io), U12 IO (io), V12 IO (io), V13 IO (io), V14 IO (io), V15 IO (io), V16 IO (io), V17 IO (io), W13 IO (io), W14 IO (io), W15 IO (io), W16 IO (io), W17 IO (io), W18 IO (io), Y12 IO (io), Y13 IO (io), Y14 IO (io), Y15 IO (io), Y16 IO (io), Y17 IO (io), Y18 IO (io)
part F pins: AA3 IO (io), AA4 IO (io), AA5 IO_VREF (io), AA6 IO (io), AA7 IO (io), AA8 IO (io), AA9 IO (io), AA10 IO (io), AA11 IO (io), AB3 IO (io), AB4 IO (io), AB5 IO (io), AB6 IO (io), AB7 IO (io), AB8 IO (io), AB9 IO (io), AB10 IO (io), AB11 IO (io), U11 IO (io), V7 IO (io), V8 IO (io), V9 IO (io), V10 IO (io), V11 IO (io), W5 IO (io), W6 IO (io), W7 IO (io), W8 IO_VREF (io), W9 IO (io), W10 IO (io), W11 IO (io), Y6 IO_VREF (io), Y7 IO (io), Y8 IO (io), Y9 IO (io), Y10 IO_VREF (io)
part G pins: AA1 IO (io), M1 IO (io), M2 IO (io), M3 IO (io), M4 IO (io), M5 IO (io), M6 IO (io), N1 IO (io), N2 IO_VREF (io), N3 IO (io), N4 IO (io), N5 IO (io), P1 IO (io), P2 IO (io), P3 IO (io), P4 IO (io), P5 IO (io), R1 IO (io), R2 IO (io), R3 IO (io), R4 IO_VREF (io), R5 IO (io), T1 IO (io), T2 IO (io), T3 IO_VREF (io), T4 IO (io), T5 IO (io), U1 IO (io), U2 IO (io), U3 IO (io), U4 IO (io), V1 IO (io), V2 IO (io), V3 IO (io), V4 IO (io), W1 IO (io), W2 IO (io), W3 IO (io), Y1 IO_VREF (io), Y2 IO (io)
part H pins: B1 IO (io), C1 IO (io), C2 IO (io), D1 IO (io), D2 IO_VREF (io), E1 IO (io), E2 IO_VREF (io), E3 IO (io), E4 IO (io), F1 IO (io), F2 IO (io), F3 IO (io), F4 IO (io), F5 IO (io), G1 IO (io), G2 IO (io), G3 IO (io), G4 IO (io), G5 IO (io), H1 IO (io), H2 IO (io), H3 IO (io), H4 IO_VREF (io), H5 IO (io), J1 IO (io), J2 IO (io), J3 IO (io), J4 IO (io), J5 IO (io), K1 IO (io), K2 IO (io), K3 IO_VREF (io), K4 IO (io), K5 IO (io), L1 IO (io), L2 IO (io), L3 IO (io), L4 IO (io), L5 IO (io), L6 IO (io)
part I pins: A11 GCK2 (in), C11 GCK3 (in), W12 GCK0 (in), Y11 GCK1 (in)
part J pins: A21 TDO (out), AB2 M0 (in), B20 TDI (in), B22 CCLK (io), C4 TCK (in), D3 TMS (in), U5 M1 (in), V6 DXP, W20 PROGRAM (in), Y4 M2 (in), Y5 DXN, Y19 DONE (io)
part K pins: E5 VCCINT (power), E18 VCCINT (power), F6 VCCINT (power), F7 VCCO (power), F8 VCCO (power), F9 VCCO (power), F10 VCCO (power), F13 VCCO (power), F14 VCCO (power), F15 VCCO (power), F16 VCCO (power), F17 VCCINT (power), G6 VCCO (power), G7 VCCINT (power), G8 VCCINT (power), G9 VCCINT (power), G10 VCCO (power), G11 VCCO (power), G12 VCCO (power), G13 VCCO (power), G14 VCCINT (power), G15 VCCINT (power), G16 VCCINT (power), G17 VCCO (power), H6 VCCO (power), H7 VCCINT (power), H16 VCCINT (power), H17 VCCO (power), J6 VCCO (power), J7 VCCINT (power), J16 VCCINT (power), J17 VCCO (power), K6 VCCO (power), K7 VCCO (power), K16 VCCO (power), K17 VCCO (power), L7 VCCO (power), L16 VCCO (power), M7 VCCO (power), M16 VCCO (power), N6 VCCO (power), N7 VCCO (power), N16 VCCO (power), N17 VCCO (power), P6 VCCO (power), P7 VCCINT (power), P16 VCCINT (power), P17 VCCO (power), R6 VCCO (power), R7 VCCINT (power), R16 VCCINT (power), R17 VCCO (power), T6 VCCO (power), T7 VCCINT (power), T8 VCCINT (power), T9 VCCINT (power), T10 VCCO (power), T11 VCCO (power), T12 VCCO (power), T13 VCCO (power), T14 VCCINT (power), T15 VCCINT (power), T16 VCCINT (power), T17 VCCO (power), U6 VCCINT (power), U7 VCCO (power), U8 VCCO (power), U9 VCCO (power), U10 VCCO (power), U13 VCCO (power), U14 VCCO (power), U15 VCCO (power), U16 VCCO (power), U17 VCCINT (power), V5 VCCINT (power), V18 VCCINT (power)
part L pins: A1 GND (power), A22 GND (power), AA2 GND (power), AA21 GND (power), AB1 GND (power), AB22 GND (power), B2 GND (power), B21 GND (power), C3 GND (power), C20 GND (power), J9 GND (power), J10 GND (power), J11 GND (power), J12 GND (power), J13 GND (power), J14 GND (power), K9 GND (power), K10 GND (power), K11 GND (power), K12 GND (power), K13 GND (power), K14 GND (power), L9 GND (power), L10 GND (power), L11 GND (power), L12 GND (power), L13 GND (power), L14 GND (power), M9 GND (power), M10 GND (power), M11 GND (power), M12 GND (power), M13 GND (power), M14 GND (power), N9 GND (power), N10 GND (power), N11 GND (power), N12 GND (power), N13 GND (power), N14 GND (power), P9 GND (power), P10 GND (power), P11 GND (power), P12 GND (power), P13 GND (power), P14 GND (power), Y3 GND (power), Y20 GND (power)
part M pins: D4 NC, D19 NC, W4 NC, W19 NC
part A text: BANK 0
part B text: BANK 1
part C text: BANK 2
part D text: BANK 3
part E text: BANK 4
part F text: BANK 5
part G text: BANK 6
part H text: BANK 7

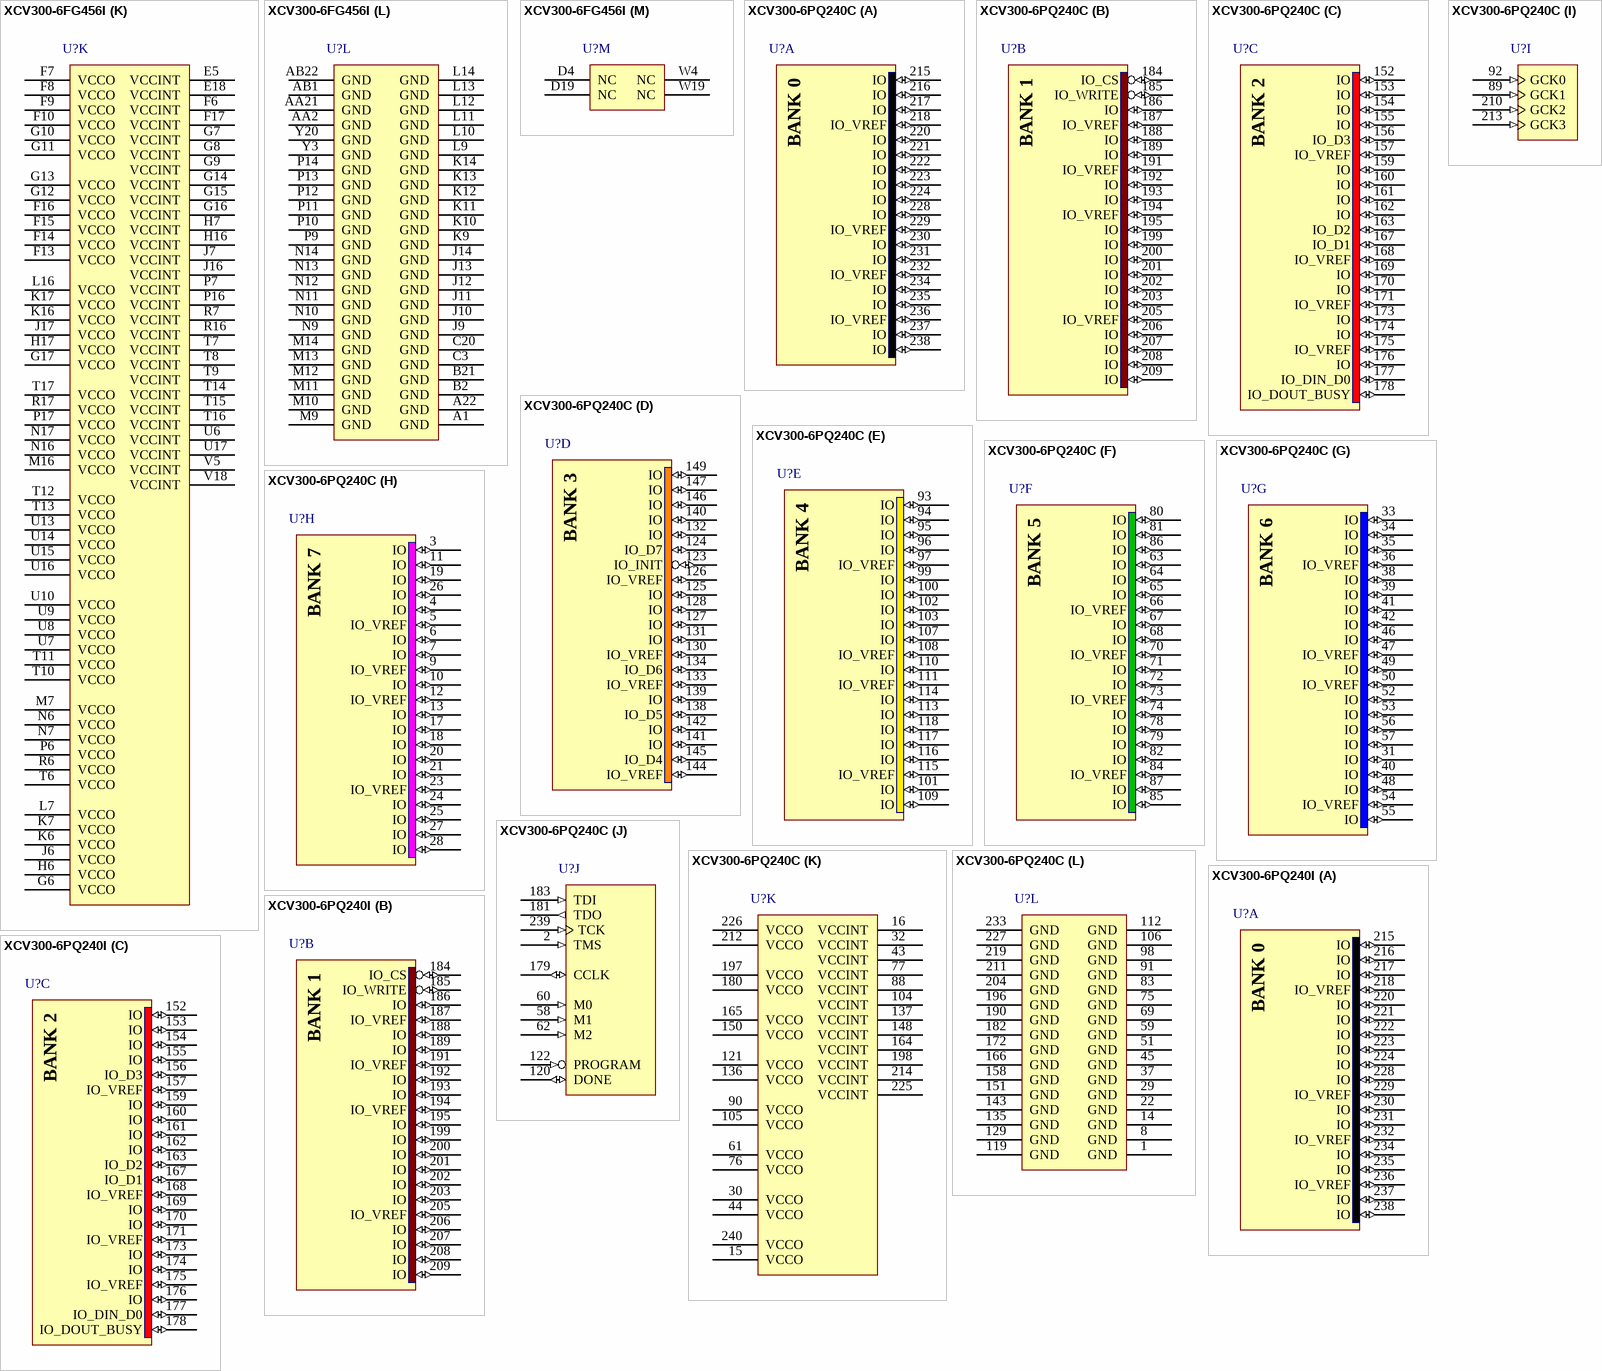
[diagram p92: symbols XCV300-6FG456I to XCV300-6PQ240I]

## XCV300-6FG456I
designator U?
Virtex 2.5V FPGA, 456-Ball FBGA, Industrial Grade; Note: Solder pads are defined by the copper, i.e. non-soldermask defined (NSMD); Published: 19-Sep-2001; LatestRevisionDate: 13-Apr-2006; LatestRevisionNote: IPC-7351 Footprint Added.; DatasheetVersion: Dec-2002; PackageVersion: ver1.2.1, Mar-2005; PackageReference: FG456; Publisher: Altium Limited; PackageDescription: 456-Ball Fine Pitch Ball Grid Array (FG456); Code_JEDEC: MO-151-AAJ-1 (Depopulated); ComponentLink1Description: Manufacturer Link; ComponentLink1URL: http://www.xilinx.com/xlnx/xil_prodcat_product.jsp?title=ss_vir; ComponentLink2Description: Datasheet; ComponentLink2URL: http://direct.xilinx.com/bvdocs/publications/ds003.pdf
footprint FG456 (BGA, 456-Leads, Body 23x23mm, Pitch 1mm)
3D model XCV300-FG456 (456-Ball Fine Pitch Ball Grid Array (FG456))
signal-integrity model XCV300_FG456 (Virtex)
part A pins: A2 IO (io), A3 IO (io), A4 IO (io), A5 IO (io), A6 IO (io), A7 IO (io), A8 IO (io), A9 IO_VREF (io), A10 IO (io), B3 IO (io), B4 IO_VREF (io), B5 IO (io), B6 IO (io), B7 IO (io), B8 IO (io), B9 IO (io), B10 IO (io), B11 IO (io), C5 IO (io), C6 IO_VREF (io), C7 IO (io), C8 IO (io), C9 IO (io), C10 IO (io), D5 IO (io), D6 IO (io), D7 IO (io), D8 IO (io), D9 IO (io), D10 IO (io), E6 IO (io), E7 IO (io), E8 IO_VREF (io), E9 IO (io), E10 IO (io), E11 IO (io), F11 IO (io)
part B pins: A12 IO (io), A13 IO (io), A14 IO (io), A15 IO (io), A16 IO (io), A17 IO (io), A18 IO_VREF (io), A19 IO_VREF (io), A20 IO_WRITE (io), B12 IO (io), B13 IO_VREF (io), B14 IO (io), B15 IO (io), B16 IO (io), B17 IO (io), B18 IO (io), B19 IO (io), C12 IO (io), C13 IO (io), C14 IO (io), C15 IO (io), C16 IO (io), C17 IO (io), C18 IO (io), C19 IO_CS (io), D11 IO (io), D12 IO (io), D13 IO (io), D14 IO (io), D15 IO (io), D16 IO (io), D17 IO (io), E12 IO (io), E13 IO (io), E14 IO_VREF (io), E15 IO (io), E16 IO (io), E17 IO (io), F12 IO (io)
part C pins: C21 IO_DOUT_BUSY (io), C22 IO (io), D18 IO (io), D20 IO_DIN_D0 (io), D21 IO (io), D22 IO_VREF (io), E19 IO (io), E20 IO (io), E21 IO (io), E22 IO (io), F18 IO (io), F19 IO (io), F20 IO (io), F21 IO_VREF (io), F22 IO (io), G18 IO (io), G19 IO (io), G20 IO (io), G21 IO (io), G22 IO (io), H18 IO_VREF (io), H19 IO (io), H20 IO_D2 (io), H21 IO (io), H22 IO_D1 (io), J18 IO (io), J19 IO (io), J20 IO (io), J21 IO (io), J22 IO (io), K18 IO (io), K19 IO (io), K20 IO_D3 (io), K21 IO_VREF (io), K22 IO (io), L17 IO (io), L18 IO (io), L19 IO (io), L20 IO (io), L21 IO (io), L22 IO (io)
part D pins: AA22 IO (io), M17 IO (io), M18 IO (io), M19 IO (io), M20 IO (io), M21 IO (io), M22 IO (io), N18 IO (io), N19 IO (io), N20 IO (io), N21 IO_VREF (io), N22 IO_D4 (io), P18 IO (io), P19 IO (io), P20 IO (io), P21 IO (io), P22 IO (io), R18 IO (io), R19 IO_VREF (io), R20 IO (io), R21 IO_D5 (io), R22 IO (io), T18 IO (io), T19 IO (io), T20 IO (io), T21 IO (io), T22 IO_D6 (io), U18 IO (io), U19 IO (io), U20 IO_VREF (io), U21 IO_VREF (io), U22 IO (io), V19 IO_INIT (io), V20 IO (io), V21 IO (io), V22 IO (io), W21 IO (io), W22 IO (io), Y21 IO_D7 (io), Y22 IO (io)
part E pins: AA12 IO (io), AA13 IO_VREF (io), AA14 IO (io), AA15 IO (io), AA16 IO (io), AA17 IO (io), AA18 IO (io), AA19 IO (io), AA20 IO (io), AB12 IO (io), AB13 IO (io), AB14 IO (io), AB15 IO (io), AB16 IO_VREF (io), AB17 IO (io), AB18 IO (io), AB19 IO_VREF (io), AB20 IO_VREF (io), AB21 IO (io), U12 IO (io), V12 IO (io), V13 IO (io), V14 IO (io), V15 IO (io), V16 IO (io), V17 IO (io), W13 IO (io), W14 IO (io), W15 IO (io), W16 IO (io), W17 IO (io), W18 IO (io), Y12 IO (io), Y13 IO (io), Y14 IO (io), Y15 IO (io), Y16 IO (io), Y17 IO (io), Y18 IO (io)
part F pins: AA3 IO (io), AA4 IO (io), AA5 IO_VREF (io), AA6 IO (io), AA7 IO (io), AA8 IO (io), AA9 IO (io), AA10 IO (io), AA11 IO (io), AB3 IO (io), AB4 IO (io), AB5 IO (io), AB6 IO (io), AB7 IO (io), AB8 IO (io), AB9 IO (io), AB10 IO (io), AB11 IO (io), U11 IO (io), V7 IO (io), V8 IO (io), V9 IO (io), V10 IO (io), V11 IO (io), W5 IO (io), W6 IO (io), W7 IO (io), W8 IO_VREF (io), W9 IO (io), W10 IO (io), W11 IO (io), Y6 IO_VREF (io), Y7 IO (io), Y8 IO (io), Y9 IO (io), Y10 IO_VREF (io)
part G pins: AA1 IO (io), M1 IO (io), M2 IO (io), M3 IO (io), M4 IO (io), M5 IO (io), M6 IO (io), N1 IO (io), N2 IO_VREF (io), N3 IO (io), N4 IO (io), N5 IO (io), P1 IO (io), P2 IO (io), P3 IO (io), P4 IO (io), P5 IO (io), R1 IO (io), R2 IO (io), R3 IO (io), R4 IO_VREF (io), R5 IO (io), T1 IO (io), T2 IO (io), T3 IO_VREF (io), T4 IO (io), T5 IO (io), U1 IO (io), U2 IO (io), U3 IO (io), U4 IO (io), V1 IO (io), V2 IO (io), V3 IO (io), V4 IO (io), W1 IO (io), W2 IO (io), W3 IO (io), Y1 IO_VREF (io), Y2 IO (io)
part H pins: B1 IO (io), C1 IO (io), C2 IO (io), D1 IO (io), D2 IO_VREF (io), E1 IO (io), E2 IO_VREF (io), E3 IO (io), E4 IO (io), F1 IO (io), F2 IO (io), F3 IO (io), F4 IO (io), F5 IO (io), G1 IO (io), G2 IO (io), G3 IO (io), G4 IO (io), G5 IO (io), H1 IO (io), H2 IO (io), H3 IO (io), H4 IO_VREF (io), H5 IO (io), J1 IO (io), J2 IO (io), J3 IO (io), J4 IO (io), J5 IO (io), K1 IO (io), K2 IO (io), K3 IO_VREF (io), K4 IO (io), K5 IO (io), L1 IO (io), L2 IO (io), L3 IO (io), L4 IO (io), L5 IO (io), L6 IO (io)
part I pins: A11 GCK2 (in), C11 GCK3 (in), W12 GCK0 (in), Y11 GCK1 (in)
part J pins: A21 TDO (out), AB2 M0 (in), B20 TDI (in), B22 CCLK (io), C4 TCK (in), D3 TMS (in), U5 M1 (in), V6 DXP, W20 PROGRAM (in), Y4 M2 (in), Y5 DXN, Y19 DONE (io)
part K pins: E5 VCCINT (power), E18 VCCINT (power), F6 VCCINT (power), F7 VCCO (power), F8 VCCO (power), F9 VCCO (power), F10 VCCO (power), F13 VCCO (power), F14 VCCO (power), F15 VCCO (power), F16 VCCO (power), F17 VCCINT (power), G6 VCCO (power), G7 VCCINT (power), G8 VCCINT (power), G9 VCCINT (power), G10 VCCO (power), G11 VCCO (power), G12 VCCO (power), G13 VCCO (power), G14 VCCINT (power), G15 VCCINT (power), G16 VCCINT (power), G17 VCCO (power), H6 VCCO (power), H7 VCCINT (power), H16 VCCINT (power), H17 VCCO (power), J6 VCCO (power), J7 VCCINT (power), J16 VCCINT (power), J17 VCCO (power), K6 VCCO (power), K7 VCCO (power), K16 VCCO (power), K17 VCCO (power), L7 VCCO (power), L16 VCCO (power), M7 VCCO (power), M16 VCCO (power), N6 VCCO (power), N7 VCCO (power), N16 VCCO (power), N17 VCCO (power), P6 VCCO (power), P7 VCCINT (power), P16 VCCINT (power), P17 VCCO (power), R6 VCCO (power), R7 VCCINT (power), R16 VCCINT (power), R17 VCCO (power), T6 VCCO (power), T7 VCCINT (power), T8 VCCINT (power), T9 VCCINT (power), T10 VCCO (power), T11 VCCO (power), T12 VCCO (power), T13 VCCO (power), T14 VCCINT (power), T15 VCCINT (power), T16 VCCINT (power), T17 VCCO (power), U6 VCCINT (power), U7 VCCO (power), U8 VCCO (power), U9 VCCO (power), U10 VCCO (power), U13 VCCO (power), U14 VCCO (power), U15 VCCO (power), U16 VCCO (power), U17 VCCINT (power), V5 VCCINT (power), V18 VCCINT (power)
part L pins: A1 GND (power), A22 GND (power), AA2 GND (power), AA21 GND (power), AB1 GND (power), AB22 GND (power), B2 GND (power), B21 GND (power), C3 GND (power), C20 GND (power), J9 GND (power), J10 GND (power), J11 GND (power), J12 GND (power), J13 GND (power), J14 GND (power), K9 GND (power), K10 GND (power), K11 GND (power), K12 GND (power), K13 GND (power), K14 GND (power), L9 GND (power), L10 GND (power), L11 GND (power), L12 GND (power), L13 GND (power), L14 GND (power), M9 GND (power), M10 GND (power), M11 GND (power), M12 GND (power), M13 GND (power), M14 GND (power), N9 GND (power), N10 GND (power), N11 GND (power), N12 GND (power), N13 GND (power), N14 GND (power), P9 GND (power), P10 GND (power), P11 GND (power), P12 GND (power), P13 GND (power), P14 GND (power), Y3 GND (power), Y20 GND (power)
part M pins: D4 NC, D19 NC, W4 NC, W19 NC
part A text: BANK 0
part B text: BANK 1
part C text: BANK 2
part D text: BANK 3
part E text: BANK 4
part F text: BANK 5
part G text: BANK 6
part H text: BANK 7

## XCV300-6PQ240C
designator U?
Virtex 2.5V FPGA, 240-Pin PQFP, Commercial Grade; Published: 19-Sep-2001; LatestRevisionDate: 13-Apr-2006; LatestRevisionNote: IPC-7351 Footprint Added.; DatasheetVersion: Dec-2002; PackageVersion: ver1.2, Jun-2004; PackageReference: PQ240; Publisher: Altium Limited; PackageDescription: 240-Pin Plastic Quad Flat Pack (PQ240); Code_JEDEC: MO-143-GA; ComponentLink1Description: Manufacturer Link; ComponentLink1URL: http://www.xilinx.com/xlnx/xil_prodcat_product.jsp?title=ss_vir; ComponentLink2Description: Datasheet; ComponentLink2URL: http://direct.xilinx.com/bvdocs/publications/ds003.pdf
footprint PQ240_N (Shrink QFP, 240-Leads, Body 32x32mm, Pitch 0.5mm, IPC Medium Density)
footprint PQ240_L (Shrink QFP, 240-Leads, Body 32x32mm, Pitch 0.5mm, IPC High Density)
footprint PQ240_M (Shrink QFP, 240-Leads, Body 32x32mm, Pitch 0.5mm, IPC Low Density)
3D model XCV300-PQ240 (240-Pin Plastic Quad Flat Pack (PQ240))
signal-integrity model XCV300_PQ240 (Virtex)
part A pins: 215 IO (io), 216 IO (io), 217 IO (io), 218 IO_VREF (io), 220 IO (io), 221 IO (io), 222 IO (io), 223 IO (io), 224 IO (io), 228 IO (io), 229 IO_VREF (io), 230 IO (io), 231 IO (io), 232 IO_VREF (io), 234 IO (io), 235 IO (io), 236 IO_VREF (io), 237 IO (io), 238 IO (io)
part B pins: 184 IO_CS (io), 185 IO_WRITE (io), 186 IO (io), 187 IO_VREF (io), 188 IO (io), 189 IO (io), 191 IO_VREF (io), 192 IO (io), 193 IO (io), 194 IO_VREF (io), 195 IO (io), 199 IO (io), 200 IO (io), 201 IO (io), 202 IO (io), 203 IO (io), 205 IO_VREF (io), 206 IO (io), 207 IO (io), 208 IO (io), 209 IO (io)
part C pins: 152 IO (io), 153 IO (io), 154 IO (io), 155 IO (io), 156 IO_D3 (io), 157 IO_VREF (io), 159 IO (io), 160 IO (io), 161 IO (io), 162 IO (io), 163 IO_D2 (io), 167 IO_D1 (io), 168 IO_VREF (io), 169 IO (io), 170 IO (io), 171 IO_VREF (io), 173 IO (io), 174 IO (io), 175 IO_VREF (io), 176 IO (io), 177 IO_DIN_D0 (io), 178 IO_DOUT_BUSY (io)
part D pins: 123 IO_INIT (io), 124 IO_D7 (io), 125 IO (io), 126 IO_VREF (io), 127 IO (io), 128 IO (io), 130 IO_VREF (io), 131 IO (io), 132 IO (io), 133 IO_VREF (io), 134 IO_D6 (io), 138 IO_D5 (io), 139 IO (io), 140 IO (io), 141 IO (io), 142 IO (io), 144 IO_VREF (io), 145 IO_D4 (io), 146 IO (io), 147 IO (io), 149 IO (io)
part E pins: 93 IO (io), 94 IO (io), 95 IO (io), 96 IO (io), 97 IO_VREF (io), 99 IO (io), 100 IO (io), 101 IO (io), 102 IO (io), 103 IO (io), 107 IO (io), 108 IO_VREF (io), 109 IO (io), 110 IO (io), 111 IO_VREF (io), 113 IO (io), 114 IO (io), 115 IO_VREF (io), 116 IO (io), 117 IO (io), 118 IO (io)
part F pins: 63 IO (io), 64 IO (io), 65 IO (io), 66 IO_VREF (io), 67 IO (io), 68 IO (io), 70 IO_VREF (io), 71 IO (io), 72 IO (io), 73 IO_VREF (io), 74 IO (io), 78 IO (io), 79 IO (io), 80 IO (io), 81 IO (io), 82 IO (io), 84 IO_VREF (io), 85 IO (io), 86 IO (io), 87 IO (io)
part G pins: 31 IO (io), 33 IO (io), 34 IO (io), 35 IO (io), 36 IO_VREF (io), 38 IO (io), 39 IO (io), 40 IO (io), 41 IO (io), 42 IO (io), 46 IO (io), 47 IO_VREF (io), 48 IO (io), 49 IO (io), 50 IO_VREF (io), 52 IO (io), 53 IO (io), 54 IO_VREF (io), 55 IO (io), 56 IO (io), 57 IO (io)
part H pins: 3 IO (io), 4 IO (io), 5 IO_VREF (io), 6 IO (io), 7 IO (io), 9 IO_VREF (io), 10 IO (io), 11 IO (io), 12 IO_VREF (io), 13 IO (io), 17 IO (io), 18 IO (io), 19 IO (io), 20 IO (io), 21 IO (io), 23 IO_VREF (io), 24 IO (io), 25 IO (io), 26 IO (io), 27 IO (io), 28 IO (io)
part I pins: 89 GCK1 (in), 92 GCK0 (in), 210 GCK2 (in), 213 GCK3 (in)
part J pins: 2 TMS (in), 58 M1 (in), 60 M0 (in), 62 M2 (in), 120 DONE (io), 122 PROGRAM (in), 179 CCLK (io), 181 TDO (out), 183 TDI (in), 239 TCK (in)
part K pins: 15 VCCO (power), 16 VCCINT (power), 30 VCCO (power), 32 VCCINT (power), 43 VCCINT (power), 44 VCCO (power), 61 VCCO (power), 76 VCCO (power), 77 VCCINT (power), 88 VCCINT (power), 90 VCCO (power), 104 VCCINT (power), 105 VCCO (power), 121 VCCO (power), 136 VCCO (power), 137 VCCINT (power), 148 VCCINT (power), 150 VCCO (power), 164 VCCINT (power), 165 VCCO (power), 180 VCCO (power), 197 VCCO (power), 198 VCCINT (power), 212 VCCO (power), 214 VCCINT (power), 225 VCCINT (power), 226 VCCO (power), 240 VCCO (power)
part L pins: 1 GND (power), 8 GND (power), 14 GND (power), 22 GND (power), 29 GND (power), 37 GND (power), 45 GND (power), 51 GND (power), 59 GND (power), 69 GND (power), 75 GND (power), 83 GND (power), 91 GND (power), 98 GND (power), 106 GND (power), 112 GND (power), 119 GND (power), 129 GND (power), 135 GND (power), 143 GND (power), 151 GND (power), 158 GND (power), 166 GND (power), 172 GND (power), 182 GND (power), 190 GND (power), 196 GND (power), 204 GND (power), 211 GND (power), 219 GND (power), 227 GND (power), 233 GND (power)
part A text: BANK 0
part B text: BANK 1
part C text: BANK 2
part D text: BANK 3
part E text: BANK 4
part F text: BANK 5
part G text: BANK 6
part H text: BANK 7

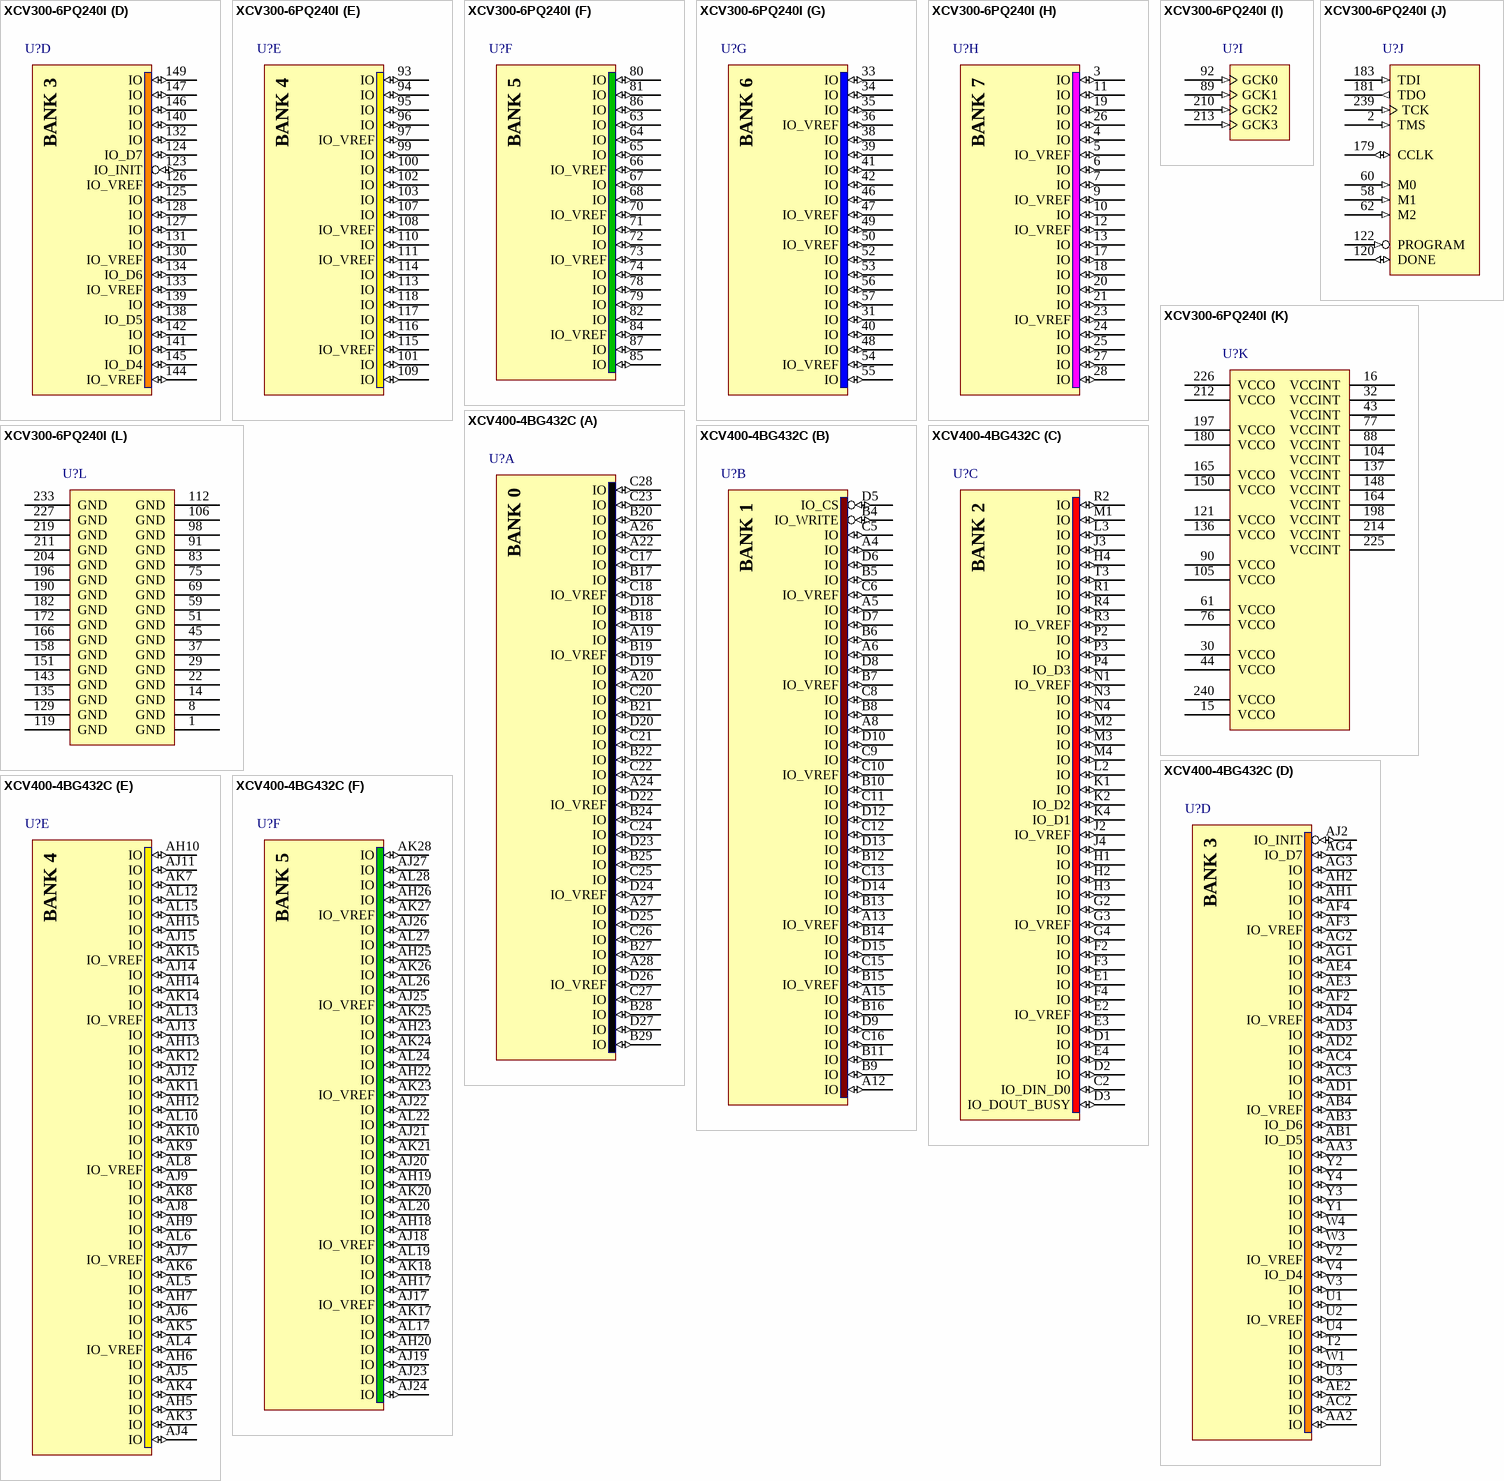
[diagram p93: symbols XCV300-6PQ240I to XCV400-4BG432C]

## XCV300-6PQ240I
designator U?
Virtex 2.5V FPGA, 240-Pin PQFP, Industrial Grade; Published: 19-Sep-2001; LatestRevisionDate: 13-Apr-2006; LatestRevisionNote: IPC-7351 Footprint Added.; DatasheetVersion: Dec-2002; PackageVersion: ver1.2, Jun-2004; PackageReference: PQ240; Publisher: Altium Limited; PackageDescription: 240-Pin Plastic Quad Flat Pack (PQ240); Code_JEDEC: MO-143-GA; ComponentLink1Description: Manufacturer Link; ComponentLink1URL: http://www.xilinx.com/xlnx/xil_prodcat_product.jsp?title=ss_vir; ComponentLink2Description: Datasheet; ComponentLink2URL: http://direct.xilinx.com/bvdocs/publications/ds003.pdf
footprint PQ240_N (Shrink QFP, 240-Leads, Body 32x32mm, Pitch 0.5mm, IPC Medium Density)
footprint PQ240_L (Shrink QFP, 240-Leads, Body 32x32mm, Pitch 0.5mm, IPC High Density)
footprint PQ240_M (Shrink QFP, 240-Leads, Body 32x32mm, Pitch 0.5mm, IPC Low Density)
3D model XCV300-PQ240 (240-Pin Plastic Quad Flat Pack (PQ240))
signal-integrity model XCV300_PQ240 (Virtex)
part A pins: 215 IO (io), 216 IO (io), 217 IO (io), 218 IO_VREF (io), 220 IO (io), 221 IO (io), 222 IO (io), 223 IO (io), 224 IO (io), 228 IO (io), 229 IO_VREF (io), 230 IO (io), 231 IO (io), 232 IO_VREF (io), 234 IO (io), 235 IO (io), 236 IO_VREF (io), 237 IO (io), 238 IO (io)
part B pins: 184 IO_CS (io), 185 IO_WRITE (io), 186 IO (io), 187 IO_VREF (io), 188 IO (io), 189 IO (io), 191 IO_VREF (io), 192 IO (io), 193 IO (io), 194 IO_VREF (io), 195 IO (io), 199 IO (io), 200 IO (io), 201 IO (io), 202 IO (io), 203 IO (io), 205 IO_VREF (io), 206 IO (io), 207 IO (io), 208 IO (io), 209 IO (io)
part C pins: 152 IO (io), 153 IO (io), 154 IO (io), 155 IO (io), 156 IO_D3 (io), 157 IO_VREF (io), 159 IO (io), 160 IO (io), 161 IO (io), 162 IO (io), 163 IO_D2 (io), 167 IO_D1 (io), 168 IO_VREF (io), 169 IO (io), 170 IO (io), 171 IO_VREF (io), 173 IO (io), 174 IO (io), 175 IO_VREF (io), 176 IO (io), 177 IO_DIN_D0 (io), 178 IO_DOUT_BUSY (io)
part D pins: 123 IO_INIT (io), 124 IO_D7 (io), 125 IO (io), 126 IO_VREF (io), 127 IO (io), 128 IO (io), 130 IO_VREF (io), 131 IO (io), 132 IO (io), 133 IO_VREF (io), 134 IO_D6 (io), 138 IO_D5 (io), 139 IO (io), 140 IO (io), 141 IO (io), 142 IO (io), 144 IO_VREF (io), 145 IO_D4 (io), 146 IO (io), 147 IO (io), 149 IO (io)
part E pins: 93 IO (io), 94 IO (io), 95 IO (io), 96 IO (io), 97 IO_VREF (io), 99 IO (io), 100 IO (io), 101 IO (io), 102 IO (io), 103 IO (io), 107 IO (io), 108 IO_VREF (io), 109 IO (io), 110 IO (io), 111 IO_VREF (io), 113 IO (io), 114 IO (io), 115 IO_VREF (io), 116 IO (io), 117 IO (io), 118 IO (io)
part F pins: 63 IO (io), 64 IO (io), 65 IO (io), 66 IO_VREF (io), 67 IO (io), 68 IO (io), 70 IO_VREF (io), 71 IO (io), 72 IO (io), 73 IO_VREF (io), 74 IO (io), 78 IO (io), 79 IO (io), 80 IO (io), 81 IO (io), 82 IO (io), 84 IO_VREF (io), 85 IO (io), 86 IO (io), 87 IO (io)
part G pins: 31 IO (io), 33 IO (io), 34 IO (io), 35 IO (io), 36 IO_VREF (io), 38 IO (io), 39 IO (io), 40 IO (io), 41 IO (io), 42 IO (io), 46 IO (io), 47 IO_VREF (io), 48 IO (io), 49 IO (io), 50 IO_VREF (io), 52 IO (io), 53 IO (io), 54 IO_VREF (io), 55 IO (io), 56 IO (io), 57 IO (io)
part H pins: 3 IO (io), 4 IO (io), 5 IO_VREF (io), 6 IO (io), 7 IO (io), 9 IO_VREF (io), 10 IO (io), 11 IO (io), 12 IO_VREF (io), 13 IO (io), 17 IO (io), 18 IO (io), 19 IO (io), 20 IO (io), 21 IO (io), 23 IO_VREF (io), 24 IO (io), 25 IO (io), 26 IO (io), 27 IO (io), 28 IO (io)
part I pins: 89 GCK1 (in), 92 GCK0 (in), 210 GCK2 (in), 213 GCK3 (in)
part J pins: 2 TMS (in), 58 M1 (in), 60 M0 (in), 62 M2 (in), 120 DONE (io), 122 PROGRAM (in), 179 CCLK (io), 181 TDO (out), 183 TDI (in), 239 TCK (in)
part K pins: 15 VCCO (power), 16 VCCINT (power), 30 VCCO (power), 32 VCCINT (power), 43 VCCINT (power), 44 VCCO (power), 61 VCCO (power), 76 VCCO (power), 77 VCCINT (power), 88 VCCINT (power), 90 VCCO (power), 104 VCCINT (power), 105 VCCO (power), 121 VCCO (power), 136 VCCO (power), 137 VCCINT (power), 148 VCCINT (power), 150 VCCO (power), 164 VCCINT (power), 165 VCCO (power), 180 VCCO (power), 197 VCCO (power), 198 VCCINT (power), 212 VCCO (power), 214 VCCINT (power), 225 VCCINT (power), 226 VCCO (power), 240 VCCO (power)
part L pins: 1 GND (power), 8 GND (power), 14 GND (power), 22 GND (power), 29 GND (power), 37 GND (power), 45 GND (power), 51 GND (power), 59 GND (power), 69 GND (power), 75 GND (power), 83 GND (power), 91 GND (power), 98 GND (power), 106 GND (power), 112 GND (power), 119 GND (power), 129 GND (power), 135 GND (power), 143 GND (power), 151 GND (power), 158 GND (power), 166 GND (power), 172 GND (power), 182 GND (power), 190 GND (power), 196 GND (power), 204 GND (power), 211 GND (power), 219 GND (power), 227 GND (power), 233 GND (power)
part A text: BANK 0
part B text: BANK 1
part C text: BANK 2
part D text: BANK 3
part E text: BANK 4
part F text: BANK 5
part G text: BANK 6
part H text: BANK 7

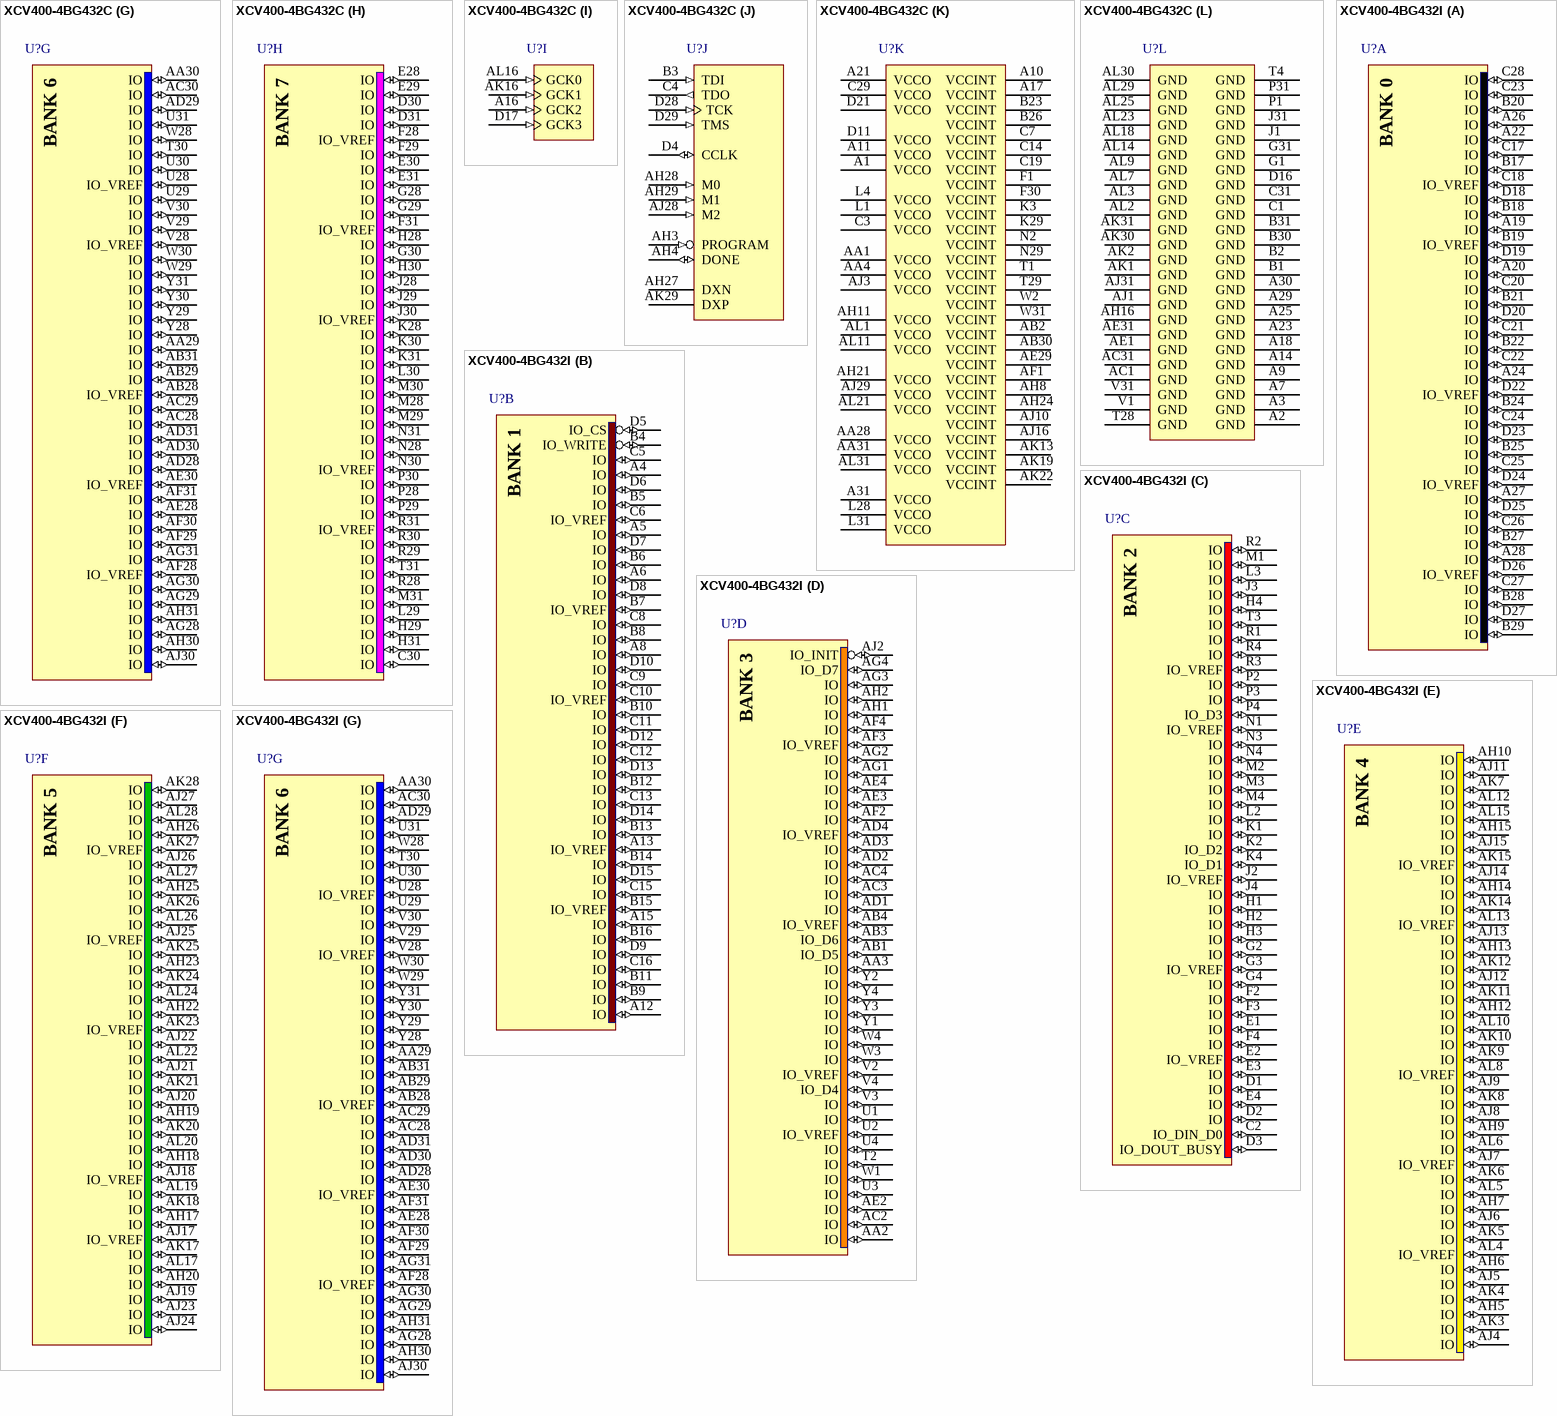
[diagram p94: symbols XCV400-4BG432C to XCV400-4BG432I]